# Altium schematic symbol library MCU_ST_STM32G0.SchLib: 252 symbols (part 4 of 5)
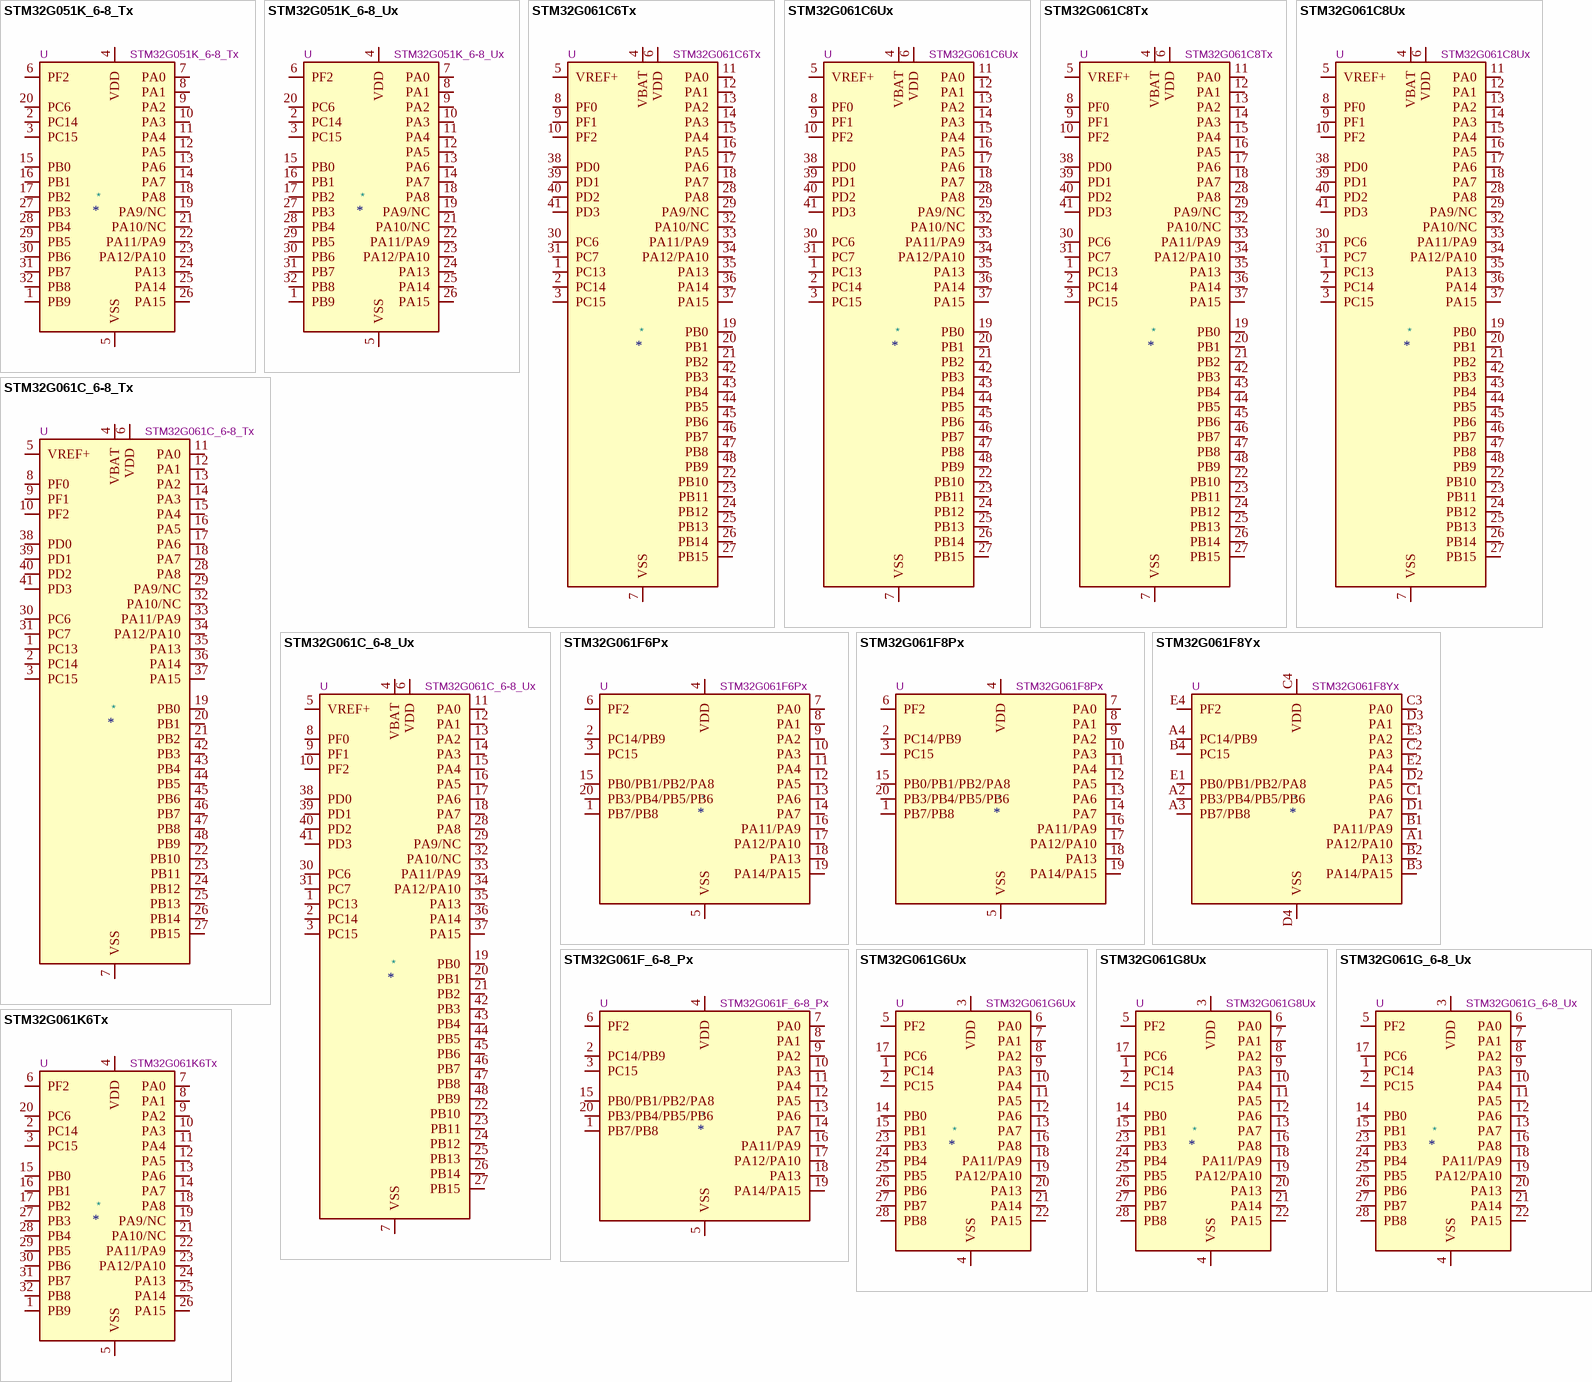
[diagram p22: symbols STM32G051K_6-8_Tx to STM32G061K6Tx]

## STM32G051K_6-8_Ux
designator *  value STM32G051K_6-8_Ux  Reference: U
ki_keywords: Arm Cortex-M0+ STM32G0 STM32G0x1; ki_description: STMicroelectronics Arm Cortex-M0+ MCU, 32-64KB flash, 18KB RAM, 64 MHz, 1.7-3.6V, 30 GPIO, UFQFPN32; ki_fp_filters: QFN*1EP*5x5mm*P0.5mm*; Footprint: Package_DFN_QFN:QFN-32-1EP_5x5mm_P0.5mm_EP3.45x3.45mm; Datasheet: https://www.st.com/resource/en/datasheet/stm32g051k6.pdf
pins: 1 PB9, 2 PC14, 3 PC15, 4 VDD, 5 VSS, 6 PF2, 7 PA0, 8 PA1, 9 PA2, 10 PA3, 11 PA4, 12 PA5, 13 PA6, 14 PA7, 15 PB0, 16 PB1, 17 PB2, 18 PA8, 19 PA9/NC, 20 PC6, 21 PA10/NC, 22 PA11/PA9, 23 PA12/PA10, 24 PA13, 25 PA14, 26 PA15, 27 PB3, 28 PB4, 29 PB5, 30 PB6, 31 PB7, 32 PB8, 33 VSS hidden

## STM32G061C6Tx
designator *  value STM32G061C6Tx  Reference: U
ki_keywords: Arm Cortex-M0+ STM32G0 STM32G0x1; ki_description: STMicroelectronics Arm Cortex-M0+ MCU, 32KB flash, 18KB RAM, 64 MHz, 1.7-3.6V, 44 GPIO, LQFP48; ki_fp_filters: LQFP*7x7mm*P0.5mm*; Footprint: Package_QFP:LQFP-48_7x7mm_P0.5mm; Datasheet: https://www.st.com/resource/en/datasheet/stm32g061c6.pdf
pins: 1 PC13, 2 PC14, 3 PC15, 4 VBAT, 5 VREF+, 6 VDD, 7 VSS, 8 PF0, 9 PF1, 10 PF2, 11 PA0, 12 PA1, 13 PA2, 14 PA3, 15 PA4, 16 PA5, 17 PA6, 18 PA7, 19 PB0, 20 PB1, 21 PB2, 22 PB10, 23 PB11, 24 PB12, 25 PB13, 26 PB14, 27 PB15, 28 PA8, 29 PA9/NC, 30 PC6, 31 PC7, 32 PA10/NC, 33 PA11/PA9, 34 PA12/PA10, 35 PA13, 36 PA14, 37 PA15, 38 PD0, 39 PD1, 40 PD2, 41 PD3, 42 PB3, 43 PB4, 44 PB5, 45 PB6, 46 PB7, 47 PB8, 48 PB9

## STM32G061C6Ux
designator *  value STM32G061C6Ux  Reference: U
ki_keywords: Arm Cortex-M0+ STM32G0 STM32G0x1; ki_description: STMicroelectronics Arm Cortex-M0+ MCU, 32KB flash, 18KB RAM, 64 MHz, 1.7-3.6V, 44 GPIO, UFQFPN48; ki_fp_filters: QFN*1EP*7x7mm*P0.5mm*; Footprint: Package_DFN_QFN:QFN-48-1EP_7x7mm_P0.5mm_EP5.6x5.6mm; Datasheet: https://www.st.com/resource/en/datasheet/stm32g061c6.pdf
pins: 1 PC13, 2 PC14, 3 PC15, 4 VBAT, 5 VREF+, 6 VDD, 7 VSS, 8 PF0, 9 PF1, 10 PF2, 11 PA0, 12 PA1, 13 PA2, 14 PA3, 15 PA4, 16 PA5, 17 PA6, 18 PA7, 19 PB0, 20 PB1, 21 PB2, 22 PB10, 23 PB11, 24 PB12, 25 PB13, 26 PB14, 27 PB15, 28 PA8, 29 PA9/NC, 30 PC6, 31 PC7, 32 PA10/NC, 33 PA11/PA9, 34 PA12/PA10, 35 PA13, 36 PA14, 37 PA15, 38 PD0, 39 PD1, 40 PD2, 41 PD3, 42 PB3, 43 PB4, 44 PB5, 45 PB6, 46 PB7, 47 PB8, 48 PB9, 49 VSS hidden

## STM32G061C8Tx
designator *  value STM32G061C8Tx  Reference: U
ki_keywords: Arm Cortex-M0+ STM32G0 STM32G0x1; ki_description: STMicroelectronics Arm Cortex-M0+ MCU, 64KB flash, 18KB RAM, 64 MHz, 1.7-3.6V, 44 GPIO, LQFP48; ki_fp_filters: LQFP*7x7mm*P0.5mm*; Footprint: Package_QFP:LQFP-48_7x7mm_P0.5mm; Datasheet: https://www.st.com/resource/en/datasheet/stm32g061c8.pdf
pins: 1 PC13, 2 PC14, 3 PC15, 4 VBAT, 5 VREF+, 6 VDD, 7 VSS, 8 PF0, 9 PF1, 10 PF2, 11 PA0, 12 PA1, 13 PA2, 14 PA3, 15 PA4, 16 PA5, 17 PA6, 18 PA7, 19 PB0, 20 PB1, 21 PB2, 22 PB10, 23 PB11, 24 PB12, 25 PB13, 26 PB14, 27 PB15, 28 PA8, 29 PA9/NC, 30 PC6, 31 PC7, 32 PA10/NC, 33 PA11/PA9, 34 PA12/PA10, 35 PA13, 36 PA14, 37 PA15, 38 PD0, 39 PD1, 40 PD2, 41 PD3, 42 PB3, 43 PB4, 44 PB5, 45 PB6, 46 PB7, 47 PB8, 48 PB9

## STM32G061C8Ux
designator *  value STM32G061C8Ux  Reference: U
ki_keywords: Arm Cortex-M0+ STM32G0 STM32G0x1; ki_description: STMicroelectronics Arm Cortex-M0+ MCU, 64KB flash, 18KB RAM, 64 MHz, 1.7-3.6V, 44 GPIO, UFQFPN48; ki_fp_filters: QFN*1EP*7x7mm*P0.5mm*; Footprint: Package_DFN_QFN:QFN-48-1EP_7x7mm_P0.5mm_EP5.6x5.6mm; Datasheet: https://www.st.com/resource/en/datasheet/stm32g061c8.pdf
pins: 1 PC13, 2 PC14, 3 PC15, 4 VBAT, 5 VREF+, 6 VDD, 7 VSS, 8 PF0, 9 PF1, 10 PF2, 11 PA0, 12 PA1, 13 PA2, 14 PA3, 15 PA4, 16 PA5, 17 PA6, 18 PA7, 19 PB0, 20 PB1, 21 PB2, 22 PB10, 23 PB11, 24 PB12, 25 PB13, 26 PB14, 27 PB15, 28 PA8, 29 PA9/NC, 30 PC6, 31 PC7, 32 PA10/NC, 33 PA11/PA9, 34 PA12/PA10, 35 PA13, 36 PA14, 37 PA15, 38 PD0, 39 PD1, 40 PD2, 41 PD3, 42 PB3, 43 PB4, 44 PB5, 45 PB6, 46 PB7, 47 PB8, 48 PB9, 49 VSS hidden

## STM32G061C_6-8_Tx
designator *  value STM32G061C_6-8_Tx  Reference: U
ki_keywords: Arm Cortex-M0+ STM32G0 STM32G0x1; ki_description: STMicroelectronics Arm Cortex-M0+ MCU, 32-64KB flash, 18KB RAM, 64 MHz, 1.7-3.6V, 44 GPIO, LQFP48; ki_fp_filters: LQFP*7x7mm*P0.5mm*; Footprint: Package_QFP:LQFP-48_7x7mm_P0.5mm; Datasheet: https://www.st.com/resource/en/datasheet/stm32g061c6.pdf
pins: 1 PC13, 2 PC14, 3 PC15, 4 VBAT, 5 VREF+, 6 VDD, 7 VSS, 8 PF0, 9 PF1, 10 PF2, 11 PA0, 12 PA1, 13 PA2, 14 PA3, 15 PA4, 16 PA5, 17 PA6, 18 PA7, 19 PB0, 20 PB1, 21 PB2, 22 PB10, 23 PB11, 24 PB12, 25 PB13, 26 PB14, 27 PB15, 28 PA8, 29 PA9/NC, 30 PC6, 31 PC7, 32 PA10/NC, 33 PA11/PA9, 34 PA12/PA10, 35 PA13, 36 PA14, 37 PA15, 38 PD0, 39 PD1, 40 PD2, 41 PD3, 42 PB3, 43 PB4, 44 PB5, 45 PB6, 46 PB7, 47 PB8, 48 PB9

## STM32G061C_6-8_Ux
designator *  value STM32G061C_6-8_Ux  Reference: U
ki_keywords: Arm Cortex-M0+ STM32G0 STM32G0x1; ki_description: STMicroelectronics Arm Cortex-M0+ MCU, 32-64KB flash, 18KB RAM, 64 MHz, 1.7-3.6V, 44 GPIO, UFQFPN48; ki_fp_filters: QFN*1EP*7x7mm*P0.5mm*; Footprint: Package_DFN_QFN:QFN-48-1EP_7x7mm_P0.5mm_EP5.6x5.6mm; Datasheet: https://www.st.com/resource/en/datasheet/stm32g061c6.pdf
pins: 1 PC13, 2 PC14, 3 PC15, 4 VBAT, 5 VREF+, 6 VDD, 7 VSS, 8 PF0, 9 PF1, 10 PF2, 11 PA0, 12 PA1, 13 PA2, 14 PA3, 15 PA4, 16 PA5, 17 PA6, 18 PA7, 19 PB0, 20 PB1, 21 PB2, 22 PB10, 23 PB11, 24 PB12, 25 PB13, 26 PB14, 27 PB15, 28 PA8, 29 PA9/NC, 30 PC6, 31 PC7, 32 PA10/NC, 33 PA11/PA9, 34 PA12/PA10, 35 PA13, 36 PA14, 37 PA15, 38 PD0, 39 PD1, 40 PD2, 41 PD3, 42 PB3, 43 PB4, 44 PB5, 45 PB6, 46 PB7, 47 PB8, 48 PB9, 49 VSS hidden

## STM32G061F6Px
designator *  value STM32G061F6Px  Reference: U
ki_keywords: Arm Cortex-M0+ STM32G0 STM32G0x1; ki_description: STMicroelectronics Arm Cortex-M0+ MCU, 32KB flash, 18KB RAM, 64 MHz, 1.7-3.6V, 18 GPIO, TSSOP20; ki_fp_filters: TSSOP*4.4x6.5mm*P0.65mm*; Footprint: Package_SO:TSSOP-20_4.4x6.5mm_P0.65mm; Datasheet: https://www.st.com/resource/en/datasheet/stm32g061f6.pdf
pins: 1 PB7/PB8, 2 PC14/PB9, 3 PC15, 4 VDD, 5 VSS, 6 PF2, 7 PA0, 8 PA1, 9 PA2, 10 PA3, 11 PA4, 12 PA5, 13 PA6, 14 PA7, 15 PB0/PB1/PB2/PA8, 16 PA11/PA9, 17 PA12/PA10, 18 PA13, 19 PA14/PA15, 20 PB3/PB4/PB5/PB6

## STM32G061F8Px
designator *  value STM32G061F8Px  Reference: U
ki_keywords: Arm Cortex-M0+ STM32G0 STM32G0x1; ki_description: STMicroelectronics Arm Cortex-M0+ MCU, 64KB flash, 18KB RAM, 64 MHz, 1.7-3.6V, 18 GPIO, TSSOP20; ki_fp_filters: TSSOP*4.4x6.5mm*P0.65mm*; Footprint: Package_SO:TSSOP-20_4.4x6.5mm_P0.65mm; Datasheet: https://www.st.com/resource/en/datasheet/stm32g061f8.pdf
pins: 1 PB7/PB8, 2 PC14/PB9, 3 PC15, 4 VDD, 5 VSS, 6 PF2, 7 PA0, 8 PA1, 9 PA2, 10 PA3, 11 PA4, 12 PA5, 13 PA6, 14 PA7, 15 PB0/PB1/PB2/PA8, 16 PA11/PA9, 17 PA12/PA10, 18 PA13, 19 PA14/PA15, 20 PB3/PB4/PB5/PB6

## STM32G061F8Yx
designator *  value STM32G061F8Yx  Reference: U
ki_keywords: Arm Cortex-M0+ STM32G0 STM32G0x1; ki_description: STMicroelectronics Arm Cortex-M0+ MCU, 64KB flash, 18KB RAM, 64 MHz, 1.7-3.6V, 18 GPIO, WLCSP20; Footprint: Package_CSP:ST_WLCSP-20_1.94x2.40mm_Layout4x5_P0.4mm; Datasheet: https://www.st.com/resource/en/datasheet/stm32g061f8.pdf; ki_fp_filters: *
pins: A1 PA12/PA10, A2 PB3/PB4/PB5/PB6, A3 PB7/PB8, A4 PC14/PB9, B1 PA11/PA9, B2 PA13, B3 PA14/PA15, B4 PC15, C1 PA6, C2 PA3, C3 PA0, C4 VDD, D1 PA7, D2 PA5, D3 PA1, D4 VSS, E1 PB0/PB1/PB2/PA8, E2 PA4, E3 PA2, E4 PF2

## STM32G061F_6-8_Px
designator *  value STM32G061F_6-8_Px  Reference: U
ki_keywords: Arm Cortex-M0+ STM32G0 STM32G0x1; ki_description: STMicroelectronics Arm Cortex-M0+ MCU, 32-64KB flash, 18KB RAM, 64 MHz, 1.7-3.6V, 18 GPIO, TSSOP20; ki_fp_filters: TSSOP*4.4x6.5mm*P0.65mm*; Footprint: Package_SO:TSSOP-20_4.4x6.5mm_P0.65mm; Datasheet: https://www.st.com/resource/en/datasheet/stm32g061f6.pdf
pins: 1 PB7/PB8, 2 PC14/PB9, 3 PC15, 4 VDD, 5 VSS, 6 PF2, 7 PA0, 8 PA1, 9 PA2, 10 PA3, 11 PA4, 12 PA5, 13 PA6, 14 PA7, 15 PB0/PB1/PB2/PA8, 16 PA11/PA9, 17 PA12/PA10, 18 PA13, 19 PA14/PA15, 20 PB3/PB4/PB5/PB6

## STM32G061G6Ux
designator *  value STM32G061G6Ux  Reference: U
ki_keywords: Arm Cortex-M0+ STM32G0 STM32G0x1; ki_description: STMicroelectronics Arm Cortex-M0+ MCU, 32KB flash, 18KB RAM, 64 MHz, 1.7-3.6V, 26 GPIO, UFQFPN28; ki_fp_filters: QFN*4x4mm*P0.5mm*; Footprint: Package_DFN_QFN:QFN-28_4x4mm_P0.5mm; Datasheet: https://www.st.com/resource/en/datasheet/stm32g061g6.pdf
pins: 1 PC14, 2 PC15, 3 VDD, 4 VSS, 5 PF2, 6 PA0, 7 PA1, 8 PA2, 9 PA3, 10 PA4, 11 PA5, 12 PA6, 13 PA7, 14 PB0, 15 PB1, 16 PA8, 17 PC6, 18 PA11/PA9, 19 PA12/PA10, 20 PA13, 21 PA14, 22 PA15, 23 PB3, 24 PB4, 25 PB5, 26 PB6, 27 PB7, 28 PB8

## STM32G061G8Ux
designator *  value STM32G061G8Ux  Reference: U
ki_keywords: Arm Cortex-M0+ STM32G0 STM32G0x1; ki_description: STMicroelectronics Arm Cortex-M0+ MCU, 64KB flash, 18KB RAM, 64 MHz, 1.7-3.6V, 26 GPIO, UFQFPN28; ki_fp_filters: QFN*4x4mm*P0.5mm*; Footprint: Package_DFN_QFN:QFN-28_4x4mm_P0.5mm; Datasheet: https://www.st.com/resource/en/datasheet/stm32g061g8.pdf
pins: 1 PC14, 2 PC15, 3 VDD, 4 VSS, 5 PF2, 6 PA0, 7 PA1, 8 PA2, 9 PA3, 10 PA4, 11 PA5, 12 PA6, 13 PA7, 14 PB0, 15 PB1, 16 PA8, 17 PC6, 18 PA11/PA9, 19 PA12/PA10, 20 PA13, 21 PA14, 22 PA15, 23 PB3, 24 PB4, 25 PB5, 26 PB6, 27 PB7, 28 PB8

## STM32G061G_6-8_Ux
designator *  value STM32G061G_6-8_Ux  Reference: U
ki_keywords: Arm Cortex-M0+ STM32G0 STM32G0x1; ki_description: STMicroelectronics Arm Cortex-M0+ MCU, 32-64KB flash, 18KB RAM, 64 MHz, 1.7-3.6V, 26 GPIO, UFQFPN28; ki_fp_filters: QFN*4x4mm*P0.5mm*; Footprint: Package_DFN_QFN:QFN-28_4x4mm_P0.5mm; Datasheet: https://www.st.com/resource/en/datasheet/stm32g061g6.pdf
pins: 1 PC14, 2 PC15, 3 VDD, 4 VSS, 5 PF2, 6 PA0, 7 PA1, 8 PA2, 9 PA3, 10 PA4, 11 PA5, 12 PA6, 13 PA7, 14 PB0, 15 PB1, 16 PA8, 17 PC6, 18 PA11/PA9, 19 PA12/PA10, 20 PA13, 21 PA14, 22 PA15, 23 PB3, 24 PB4, 25 PB5, 26 PB6, 27 PB7, 28 PB8

## STM32G061K6Tx
designator *  value STM32G061K6Tx  Reference: U
ki_keywords: Arm Cortex-M0+ STM32G0 STM32G0x1; ki_description: STMicroelectronics Arm Cortex-M0+ MCU, 32KB flash, 18KB RAM, 64 MHz, 1.7-3.6V, 30 GPIO, LQFP32; ki_fp_filters: LQFP*7x7mm*P0.8mm*; Footprint: Package_QFP:LQFP-32_7x7mm_P0.8mm; Datasheet: https://www.st.com/resource/en/datasheet/stm32g061k6.pdf
pins: 1 PB9, 2 PC14, 3 PC15, 4 VDD, 5 VSS, 6 PF2, 7 PA0, 8 PA1, 9 PA2, 10 PA3, 11 PA4, 12 PA5, 13 PA6, 14 PA7, 15 PB0, 16 PB1, 17 PB2, 18 PA8, 19 PA9/NC, 20 PC6, 21 PA10/NC, 22 PA11/PA9, 23 PA12/PA10, 24 PA13, 25 PA14, 26 PA15, 27 PB3, 28 PB4, 29 PB5, 30 PB6, 31 PB7, 32 PB8

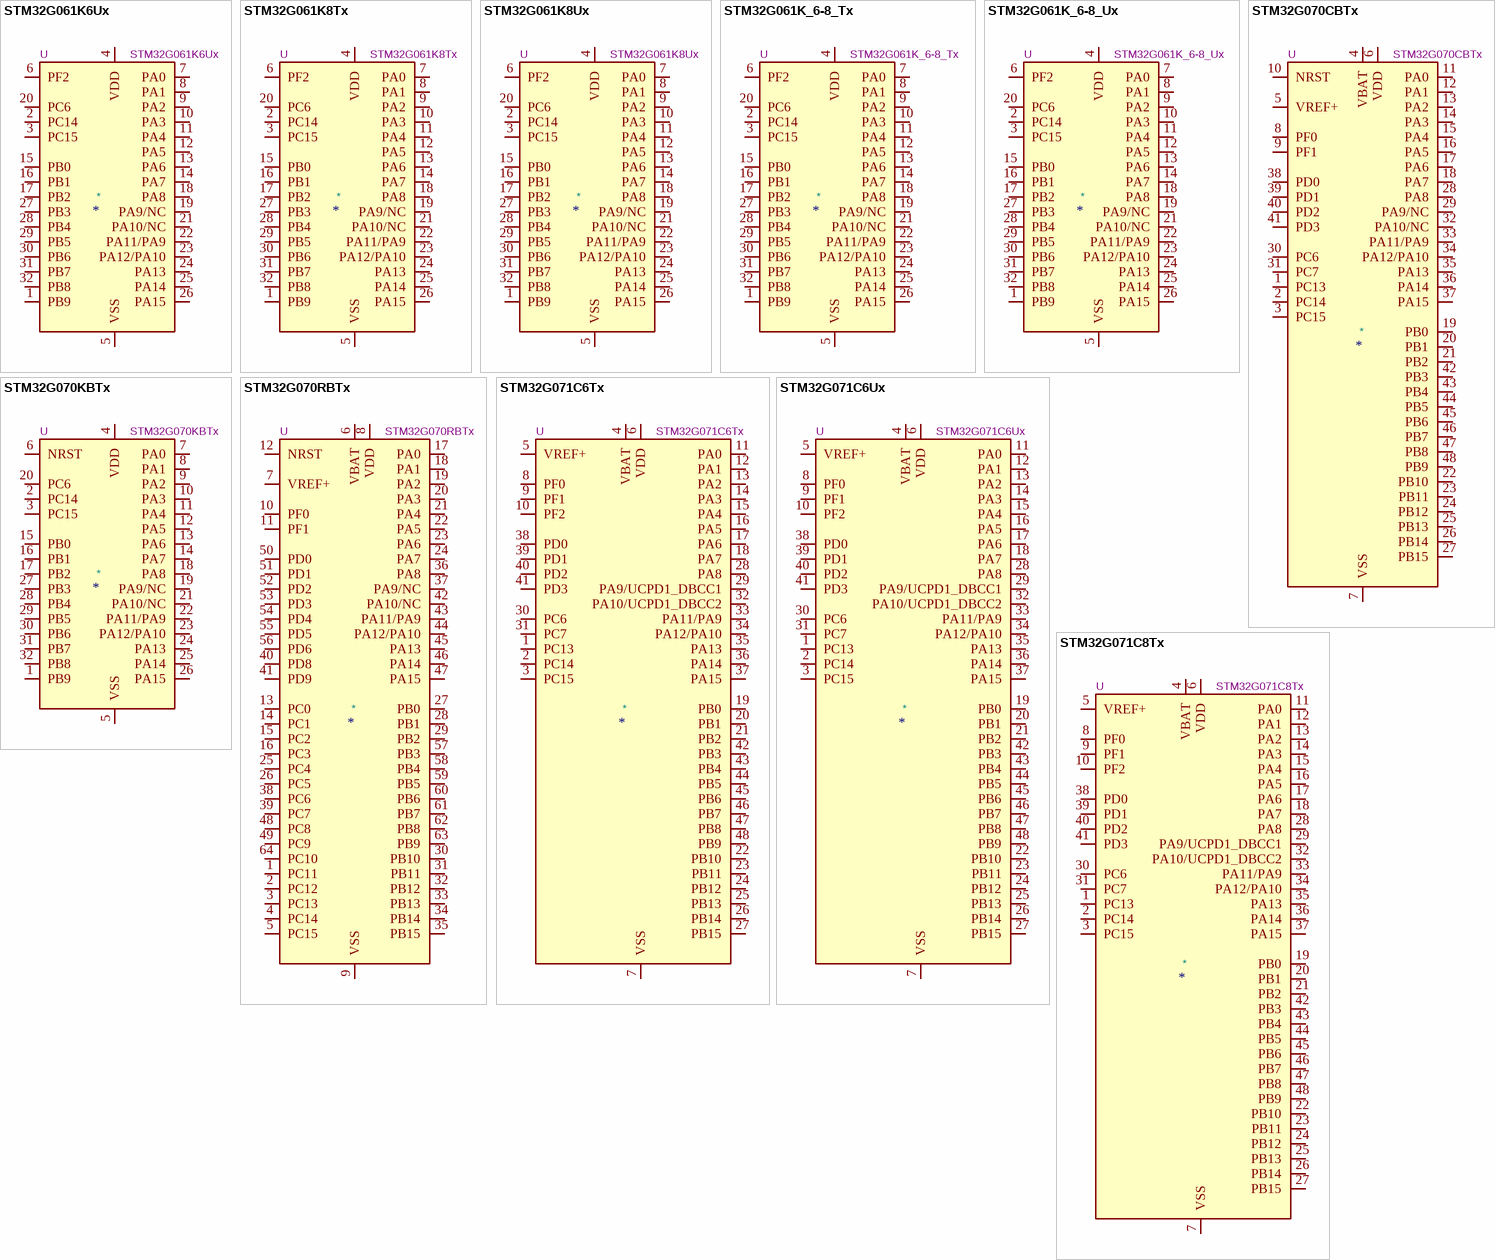
[diagram p16: symbols STM32G061K6Ux to STM32G071C8Tx]

## STM32G061K6Ux
designator *  value STM32G061K6Ux  Reference: U
ki_keywords: Arm Cortex-M0+ STM32G0 STM32G0x1; ki_description: STMicroelectronics Arm Cortex-M0+ MCU, 32KB flash, 18KB RAM, 64 MHz, 1.7-3.6V, 30 GPIO, UFQFPN32; ki_fp_filters: QFN*1EP*5x5mm*P0.5mm*; Footprint: Package_DFN_QFN:QFN-32-1EP_5x5mm_P0.5mm_EP3.45x3.45mm; Datasheet: https://www.st.com/resource/en/datasheet/stm32g061k6.pdf
pins: 1 PB9, 2 PC14, 3 PC15, 4 VDD, 5 VSS, 6 PF2, 7 PA0, 8 PA1, 9 PA2, 10 PA3, 11 PA4, 12 PA5, 13 PA6, 14 PA7, 15 PB0, 16 PB1, 17 PB2, 18 PA8, 19 PA9/NC, 20 PC6, 21 PA10/NC, 22 PA11/PA9, 23 PA12/PA10, 24 PA13, 25 PA14, 26 PA15, 27 PB3, 28 PB4, 29 PB5, 30 PB6, 31 PB7, 32 PB8, 33 VSS hidden

## STM32G061K8Tx
designator *  value STM32G061K8Tx  Reference: U
ki_keywords: Arm Cortex-M0+ STM32G0 STM32G0x1; ki_description: STMicroelectronics Arm Cortex-M0+ MCU, 64KB flash, 18KB RAM, 64 MHz, 1.7-3.6V, 30 GPIO, LQFP32; ki_fp_filters: LQFP*7x7mm*P0.8mm*; Footprint: Package_QFP:LQFP-32_7x7mm_P0.8mm; Datasheet: https://www.st.com/resource/en/datasheet/stm32g061k8.pdf
pins: 1 PB9, 2 PC14, 3 PC15, 4 VDD, 5 VSS, 6 PF2, 7 PA0, 8 PA1, 9 PA2, 10 PA3, 11 PA4, 12 PA5, 13 PA6, 14 PA7, 15 PB0, 16 PB1, 17 PB2, 18 PA8, 19 PA9/NC, 20 PC6, 21 PA10/NC, 22 PA11/PA9, 23 PA12/PA10, 24 PA13, 25 PA14, 26 PA15, 27 PB3, 28 PB4, 29 PB5, 30 PB6, 31 PB7, 32 PB8

## STM32G061K8Ux
designator *  value STM32G061K8Ux  Reference: U
ki_keywords: Arm Cortex-M0+ STM32G0 STM32G0x1; ki_description: STMicroelectronics Arm Cortex-M0+ MCU, 64KB flash, 18KB RAM, 64 MHz, 1.7-3.6V, 30 GPIO, UFQFPN32; ki_fp_filters: QFN*1EP*5x5mm*P0.5mm*; Footprint: Package_DFN_QFN:QFN-32-1EP_5x5mm_P0.5mm_EP3.45x3.45mm; Datasheet: https://www.st.com/resource/en/datasheet/stm32g061k8.pdf
pins: 1 PB9, 2 PC14, 3 PC15, 4 VDD, 5 VSS, 6 PF2, 7 PA0, 8 PA1, 9 PA2, 10 PA3, 11 PA4, 12 PA5, 13 PA6, 14 PA7, 15 PB0, 16 PB1, 17 PB2, 18 PA8, 19 PA9/NC, 20 PC6, 21 PA10/NC, 22 PA11/PA9, 23 PA12/PA10, 24 PA13, 25 PA14, 26 PA15, 27 PB3, 28 PB4, 29 PB5, 30 PB6, 31 PB7, 32 PB8, 33 VSS hidden

## STM32G061K_6-8_Tx
designator *  value STM32G061K_6-8_Tx  Reference: U
ki_keywords: Arm Cortex-M0+ STM32G0 STM32G0x1; ki_description: STMicroelectronics Arm Cortex-M0+ MCU, 32-64KB flash, 18KB RAM, 64 MHz, 1.7-3.6V, 30 GPIO, LQFP32; ki_fp_filters: LQFP*7x7mm*P0.8mm*; Footprint: Package_QFP:LQFP-32_7x7mm_P0.8mm; Datasheet: https://www.st.com/resource/en/datasheet/stm32g061k6.pdf
pins: 1 PB9, 2 PC14, 3 PC15, 4 VDD, 5 VSS, 6 PF2, 7 PA0, 8 PA1, 9 PA2, 10 PA3, 11 PA4, 12 PA5, 13 PA6, 14 PA7, 15 PB0, 16 PB1, 17 PB2, 18 PA8, 19 PA9/NC, 20 PC6, 21 PA10/NC, 22 PA11/PA9, 23 PA12/PA10, 24 PA13, 25 PA14, 26 PA15, 27 PB3, 28 PB4, 29 PB5, 30 PB6, 31 PB7, 32 PB8

## STM32G061K_6-8_Ux
designator *  value STM32G061K_6-8_Ux  Reference: U
ki_keywords: Arm Cortex-M0+ STM32G0 STM32G0x1; ki_description: STMicroelectronics Arm Cortex-M0+ MCU, 32-64KB flash, 18KB RAM, 64 MHz, 1.7-3.6V, 30 GPIO, UFQFPN32; ki_fp_filters: QFN*1EP*5x5mm*P0.5mm*; Footprint: Package_DFN_QFN:QFN-32-1EP_5x5mm_P0.5mm_EP3.45x3.45mm; Datasheet: https://www.st.com/resource/en/datasheet/stm32g061k6.pdf
pins: 1 PB9, 2 PC14, 3 PC15, 4 VDD, 5 VSS, 6 PF2, 7 PA0, 8 PA1, 9 PA2, 10 PA3, 11 PA4, 12 PA5, 13 PA6, 14 PA7, 15 PB0, 16 PB1, 17 PB2, 18 PA8, 19 PA9/NC, 20 PC6, 21 PA10/NC, 22 PA11/PA9, 23 PA12/PA10, 24 PA13, 25 PA14, 26 PA15, 27 PB3, 28 PB4, 29 PB5, 30 PB6, 31 PB7, 32 PB8, 33 VSS hidden

## STM32G070CBTx
designator *  value STM32G070CBTx  Reference: U
ki_keywords: Arm Cortex-M0+ STM32G0 STM32G0x0 Value line; ki_description: STMicroelectronics Arm Cortex-M0+ MCU, 128KB flash, 36KB RAM, 64 MHz, 2.0-3.6V, 43 GPIO, LQFP48; ki_fp_filters: LQFP*7x7mm*P0.5mm*; Footprint: Package_QFP:LQFP-48_7x7mm_P0.5mm; Datasheet: https://www.st.com/resource/en/datasheet/stm32g070cb.pdf
pins: 1 PC13, 2 PC14, 3 PC15, 4 VBAT, 5 VREF+, 6 VDD, 7 VSS, 8 PF0, 9 PF1, 10 NRST, 11 PA0, 12 PA1, 13 PA2, 14 PA3, 15 PA4, 16 PA5, 17 PA6, 18 PA7, 19 PB0, 20 PB1, 21 PB2, 22 PB10, 23 PB11, 24 PB12, 25 PB13, 26 PB14, 27 PB15, 28 PA8, 29 PA9/NC, 30 PC6, 31 PC7, 32 PA10/NC, 33 PA11/PA9, 34 PA12/PA10, 35 PA13, 36 PA14, 37 PA15, 38 PD0, 39 PD1, 40 PD2, 41 PD3, 42 PB3, 43 PB4, 44 PB5, 45 PB6, 46 PB7, 47 PB8, 48 PB9

## STM32G070KBTx
designator *  value STM32G070KBTx  Reference: U
ki_keywords: Arm Cortex-M0+ STM32G0 STM32G0x0 Value line; ki_description: STMicroelectronics Arm Cortex-M0+ MCU, 128KB flash, 36KB RAM, 64 MHz, 2.0-3.6V, 29 GPIO, LQFP32; ki_fp_filters: LQFP*7x7mm*P0.8mm*; Footprint: Package_QFP:LQFP-32_7x7mm_P0.8mm; Datasheet: https://www.st.com/resource/en/datasheet/stm32g070kb.pdf
pins: 1 PB9, 2 PC14, 3 PC15, 4 VDD, 5 VSS, 6 NRST, 7 PA0, 8 PA1, 9 PA2, 10 PA3, 11 PA4, 12 PA5, 13 PA6, 14 PA7, 15 PB0, 16 PB1, 17 PB2, 18 PA8, 19 PA9/NC, 20 PC6, 21 PA10/NC, 22 PA11/PA9, 23 PA12/PA10, 24 PA13, 25 PA14, 26 PA15, 27 PB3, 28 PB4, 29 PB5, 30 PB6, 31 PB7, 32 PB8

## STM32G070RBTx
designator *  value STM32G070RBTx  Reference: U
ki_keywords: Arm Cortex-M0+ STM32G0 STM32G0x0 Value line; ki_description: STMicroelectronics Arm Cortex-M0+ MCU, 128KB flash, 36KB RAM, 64 MHz, 2.0-3.6V, 59 GPIO, LQFP64; ki_fp_filters: LQFP*10x10mm*P0.5mm*; Footprint: Package_QFP:LQFP-64_10x10mm_P0.5mm; Datasheet: https://www.st.com/resource/en/datasheet/stm32g070rb.pdf
pins: 1 PC11, 2 PC12, 3 PC13, 4 PC14, 5 PC15, 6 VBAT, 7 VREF+, 8 VDD, 9 VSS, 10 PF0, 11 PF1, 12 NRST, 13 PC0, 14 PC1, 15 PC2, 16 PC3, 17 PA0, 18 PA1, 19 PA2, 20 PA3, 21 PA4, 22 PA5, 23 PA6, 24 PA7, 25 PC4, 26 PC5, 27 PB0, 28 PB1, 29 PB2, 30 PB10, 31 PB11, 32 PB12, 33 PB13, 34 PB14, 35 PB15, 36 PA8, 37 PA9/NC, 38 PC6, 39 PC7, 40 PD8, 41 PD9, 42 PA10/NC, 43 PA11/PA9, 44 PA12/PA10, 45 PA13, 46 PA14, 47 PA15, 48 PC8, 49 PC9, 50 PD0, 51 PD1, 52 PD2, 53 PD3, 54 PD4, 55 PD5, 56 PD6, 57 PB3, 58 PB4, 59 PB5, 60 PB6, 61 PB7, 62 PB8, 63 PB9, 64 PC10

## STM32G071C6Tx
designator *  value STM32G071C6Tx  Reference: U
ki_keywords: Arm Cortex-M0+ STM32G0 STM32G0x1; ki_description: STMicroelectronics Arm Cortex-M0+ MCU, 32KB flash, 36KB RAM, 64 MHz, 1.7-3.6V, 44 GPIO, LQFP48; ki_fp_filters: LQFP*7x7mm*P0.5mm*; Footprint: Package_QFP:LQFP-48_7x7mm_P0.5mm; Datasheet: https://www.st.com/resource/en/datasheet/stm32g071c6.pdf
pins: 1 PC13, 2 PC14, 3 PC15, 4 VBAT, 5 VREF+, 6 VDD, 7 VSS, 8 PF0, 9 PF1, 10 PF2, 11 PA0, 12 PA1, 13 PA2, 14 PA3, 15 PA4, 16 PA5, 17 PA6, 18 PA7, 19 PB0, 20 PB1, 21 PB2, 22 PB10, 23 PB11, 24 PB12, 25 PB13, 26 PB14, 27 PB15, 28 PA8, 29 PA9/UCPD1_DBCC1, 30 PC6, 31 PC7, 32 PA10/UCPD1_DBCC2, 33 PA11/PA9, 34 PA12/PA10, 35 PA13, 36 PA14, 37 PA15, 38 PD0, 39 PD1, 40 PD2, 41 PD3, 42 PB3, 43 PB4, 44 PB5, 45 PB6, 46 PB7, 47 PB8, 48 PB9

## STM32G071C6Ux
designator *  value STM32G071C6Ux  Reference: U
ki_keywords: Arm Cortex-M0+ STM32G0 STM32G0x1; ki_description: STMicroelectronics Arm Cortex-M0+ MCU, 32KB flash, 36KB RAM, 64 MHz, 1.7-3.6V, 44 GPIO, UFQFPN48; ki_fp_filters: QFN*1EP*7x7mm*P0.5mm*; Footprint: Package_DFN_QFN:QFN-48-1EP_7x7mm_P0.5mm_EP5.6x5.6mm; Datasheet: https://www.st.com/resource/en/datasheet/stm32g071c6.pdf
pins: 1 PC13, 2 PC14, 3 PC15, 4 VBAT, 5 VREF+, 6 VDD, 7 VSS, 8 PF0, 9 PF1, 10 PF2, 11 PA0, 12 PA1, 13 PA2, 14 PA3, 15 PA4, 16 PA5, 17 PA6, 18 PA7, 19 PB0, 20 PB1, 21 PB2, 22 PB10, 23 PB11, 24 PB12, 25 PB13, 26 PB14, 27 PB15, 28 PA8, 29 PA9/UCPD1_DBCC1, 30 PC6, 31 PC7, 32 PA10/UCPD1_DBCC2, 33 PA11/PA9, 34 PA12/PA10, 35 PA13, 36 PA14, 37 PA15, 38 PD0, 39 PD1, 40 PD2, 41 PD3, 42 PB3, 43 PB4, 44 PB5, 45 PB6, 46 PB7, 47 PB8, 48 PB9, 49 VSS hidden

## STM32G071C8Tx
designator *  value STM32G071C8Tx  Reference: U
ki_keywords: Arm Cortex-M0+ STM32G0 STM32G0x1; ki_description: STMicroelectronics Arm Cortex-M0+ MCU, 64KB flash, 36KB RAM, 64 MHz, 1.7-3.6V, 44 GPIO, LQFP48; ki_fp_filters: LQFP*7x7mm*P0.5mm*; Footprint: Package_QFP:LQFP-48_7x7mm_P0.5mm; Datasheet: https://www.st.com/resource/en/datasheet/stm32g071c8.pdf
pins: 1 PC13, 2 PC14, 3 PC15, 4 VBAT, 5 VREF+, 6 VDD, 7 VSS, 8 PF0, 9 PF1, 10 PF2, 11 PA0, 12 PA1, 13 PA2, 14 PA3, 15 PA4, 16 PA5, 17 PA6, 18 PA7, 19 PB0, 20 PB1, 21 PB2, 22 PB10, 23 PB11, 24 PB12, 25 PB13, 26 PB14, 27 PB15, 28 PA8, 29 PA9/UCPD1_DBCC1, 30 PC6, 31 PC7, 32 PA10/UCPD1_DBCC2, 33 PA11/PA9, 34 PA12/PA10, 35 PA13, 36 PA14, 37 PA15, 38 PD0, 39 PD1, 40 PD2, 41 PD3, 42 PB3, 43 PB4, 44 PB5, 45 PB6, 46 PB7, 47 PB8, 48 PB9

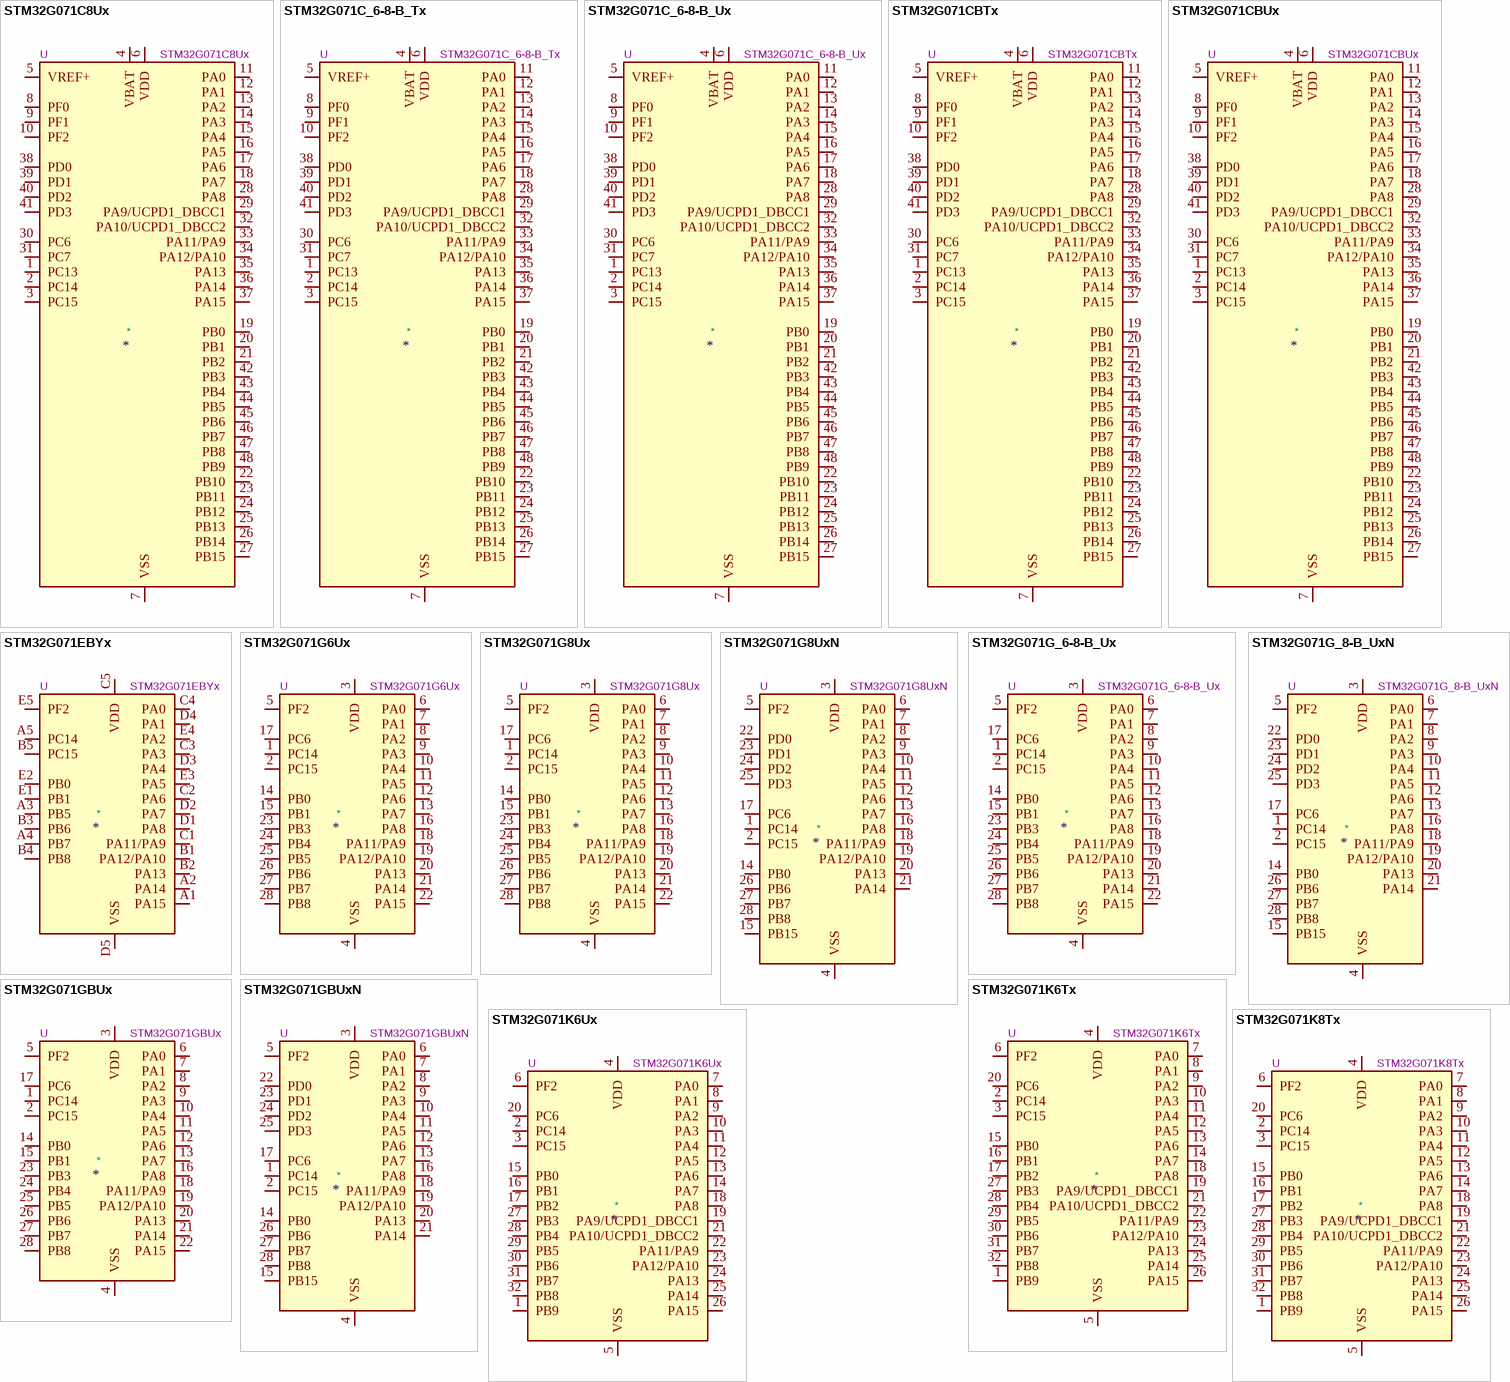
[diagram p17: symbols STM32G071C8Ux to STM32G071K8Tx]

## STM32G071C8Ux
designator *  value STM32G071C8Ux  Reference: U
ki_keywords: Arm Cortex-M0+ STM32G0 STM32G0x1; ki_description: STMicroelectronics Arm Cortex-M0+ MCU, 64KB flash, 36KB RAM, 64 MHz, 1.7-3.6V, 44 GPIO, UFQFPN48; ki_fp_filters: QFN*1EP*7x7mm*P0.5mm*; Footprint: Package_DFN_QFN:QFN-48-1EP_7x7mm_P0.5mm_EP5.6x5.6mm; Datasheet: https://www.st.com/resource/en/datasheet/stm32g071c8.pdf
pins: 1 PC13, 2 PC14, 3 PC15, 4 VBAT, 5 VREF+, 6 VDD, 7 VSS, 8 PF0, 9 PF1, 10 PF2, 11 PA0, 12 PA1, 13 PA2, 14 PA3, 15 PA4, 16 PA5, 17 PA6, 18 PA7, 19 PB0, 20 PB1, 21 PB2, 22 PB10, 23 PB11, 24 PB12, 25 PB13, 26 PB14, 27 PB15, 28 PA8, 29 PA9/UCPD1_DBCC1, 30 PC6, 31 PC7, 32 PA10/UCPD1_DBCC2, 33 PA11/PA9, 34 PA12/PA10, 35 PA13, 36 PA14, 37 PA15, 38 PD0, 39 PD1, 40 PD2, 41 PD3, 42 PB3, 43 PB4, 44 PB5, 45 PB6, 46 PB7, 47 PB8, 48 PB9, 49 VSS hidden

## STM32G071C_6-8-B_Tx
designator *  value STM32G071C_6-8-B_Tx  Reference: U
ki_keywords: Arm Cortex-M0+ STM32G0 STM32G0x1; ki_description: STMicroelectronics Arm Cortex-M0+ MCU, 32-128KB flash, 36KB RAM, 64 MHz, 1.7-3.6V, 44 GPIO, LQFP48; ki_fp_filters: LQFP*7x7mm*P0.5mm*; Footprint: Package_QFP:LQFP-48_7x7mm_P0.5mm; Datasheet: https://www.st.com/resource/en/datasheet/stm32g071c.pdf
pins: 1 PC13, 2 PC14, 3 PC15, 4 VBAT, 5 VREF+, 6 VDD, 7 VSS, 8 PF0, 9 PF1, 10 PF2, 11 PA0, 12 PA1, 13 PA2, 14 PA3, 15 PA4, 16 PA5, 17 PA6, 18 PA7, 19 PB0, 20 PB1, 21 PB2, 22 PB10, 23 PB11, 24 PB12, 25 PB13, 26 PB14, 27 PB15, 28 PA8, 29 PA9/UCPD1_DBCC1, 30 PC6, 31 PC7, 32 PA10/UCPD1_DBCC2, 33 PA11/PA9, 34 PA12/PA10, 35 PA13, 36 PA14, 37 PA15, 38 PD0, 39 PD1, 40 PD2, 41 PD3, 42 PB3, 43 PB4, 44 PB5, 45 PB6, 46 PB7, 47 PB8, 48 PB9

## STM32G071C_6-8-B_Ux
designator *  value STM32G071C_6-8-B_Ux  Reference: U
ki_keywords: Arm Cortex-M0+ STM32G0 STM32G0x1; ki_description: STMicroelectronics Arm Cortex-M0+ MCU, 32-128KB flash, 36KB RAM, 64 MHz, 1.7-3.6V, 44 GPIO, UFQFPN48; ki_fp_filters: QFN*1EP*7x7mm*P0.5mm*; Footprint: Package_DFN_QFN:QFN-48-1EP_7x7mm_P0.5mm_EP5.6x5.6mm; Datasheet: https://www.st.com/resource/en/datasheet/stm32g071c.pdf
pins: 1 PC13, 2 PC14, 3 PC15, 4 VBAT, 5 VREF+, 6 VDD, 7 VSS, 8 PF0, 9 PF1, 10 PF2, 11 PA0, 12 PA1, 13 PA2, 14 PA3, 15 PA4, 16 PA5, 17 PA6, 18 PA7, 19 PB0, 20 PB1, 21 PB2, 22 PB10, 23 PB11, 24 PB12, 25 PB13, 26 PB14, 27 PB15, 28 PA8, 29 PA9/UCPD1_DBCC1, 30 PC6, 31 PC7, 32 PA10/UCPD1_DBCC2, 33 PA11/PA9, 34 PA12/PA10, 35 PA13, 36 PA14, 37 PA15, 38 PD0, 39 PD1, 40 PD2, 41 PD3, 42 PB3, 43 PB4, 44 PB5, 45 PB6, 46 PB7, 47 PB8, 48 PB9, 49 VSS hidden

## STM32G071CBTx
designator *  value STM32G071CBTx  Reference: U
ki_keywords: Arm Cortex-M0+ STM32G0 STM32G0x1; ki_description: STMicroelectronics Arm Cortex-M0+ MCU, 128KB flash, 36KB RAM, 64 MHz, 1.7-3.6V, 44 GPIO, LQFP48; ki_fp_filters: LQFP*7x7mm*P0.5mm*; Footprint: Package_QFP:LQFP-48_7x7mm_P0.5mm; Datasheet: https://www.st.com/resource/en/datasheet/stm32g071cb.pdf
pins: 1 PC13, 2 PC14, 3 PC15, 4 VBAT, 5 VREF+, 6 VDD, 7 VSS, 8 PF0, 9 PF1, 10 PF2, 11 PA0, 12 PA1, 13 PA2, 14 PA3, 15 PA4, 16 PA5, 17 PA6, 18 PA7, 19 PB0, 20 PB1, 21 PB2, 22 PB10, 23 PB11, 24 PB12, 25 PB13, 26 PB14, 27 PB15, 28 PA8, 29 PA9/UCPD1_DBCC1, 30 PC6, 31 PC7, 32 PA10/UCPD1_DBCC2, 33 PA11/PA9, 34 PA12/PA10, 35 PA13, 36 PA14, 37 PA15, 38 PD0, 39 PD1, 40 PD2, 41 PD3, 42 PB3, 43 PB4, 44 PB5, 45 PB6, 46 PB7, 47 PB8, 48 PB9

## STM32G071CBUx
designator *  value STM32G071CBUx  Reference: U
ki_keywords: Arm Cortex-M0+ STM32G0 STM32G0x1; ki_description: STMicroelectronics Arm Cortex-M0+ MCU, 128KB flash, 36KB RAM, 64 MHz, 1.7-3.6V, 44 GPIO, UFQFPN48; ki_fp_filters: QFN*1EP*7x7mm*P0.5mm*; Footprint: Package_DFN_QFN:QFN-48-1EP_7x7mm_P0.5mm_EP5.6x5.6mm; Datasheet: https://www.st.com/resource/en/datasheet/stm32g071cb.pdf
pins: 1 PC13, 2 PC14, 3 PC15, 4 VBAT, 5 VREF+, 6 VDD, 7 VSS, 8 PF0, 9 PF1, 10 PF2, 11 PA0, 12 PA1, 13 PA2, 14 PA3, 15 PA4, 16 PA5, 17 PA6, 18 PA7, 19 PB0, 20 PB1, 21 PB2, 22 PB10, 23 PB11, 24 PB12, 25 PB13, 26 PB14, 27 PB15, 28 PA8, 29 PA9/UCPD1_DBCC1, 30 PC6, 31 PC7, 32 PA10/UCPD1_DBCC2, 33 PA11/PA9, 34 PA12/PA10, 35 PA13, 36 PA14, 37 PA15, 38 PD0, 39 PD1, 40 PD2, 41 PD3, 42 PB3, 43 PB4, 44 PB5, 45 PB6, 46 PB7, 47 PB8, 48 PB9, 49 VSS hidden

## STM32G071EBYx
designator *  value STM32G071EBYx  Reference: U
ki_keywords: Arm Cortex-M0+ STM32G0 STM32G0x1; ki_description: STMicroelectronics Arm Cortex-M0+ MCU, 128KB flash, 36KB RAM, 64 MHz, 1.7-3.6V, 23 GPIO, WLCSP25; Footprint: Package_CSP:ST_WLCSP-25_2.30x2.48mm_Layout5x5_P0.4mm; Datasheet: https://www.st.com/resource/en/datasheet/stm32g071eb.pdf; ki_fp_filters: *
pins: A1 PA15, A2 PA14, A3 PB5, A4 PB7, A5 PC14, B1 PA12/PA10, B2 PA13, B3 PB6, B4 PB8, B5 PC15, C1 PA11/PA9, C2 PA6, C3 PA3, C4 PA0, C5 VDD, D1 PA8, D2 PA7, D3 PA4, D4 PA1, D5 VSS, E1 PB1, E2 PB0, E3 PA5, E4 PA2, E5 PF2

## STM32G071G6Ux
designator *  value STM32G071G6Ux  Reference: U
ki_keywords: Arm Cortex-M0+ STM32G0 STM32G0x1; ki_description: STMicroelectronics Arm Cortex-M0+ MCU, 32KB flash, 36KB RAM, 64 MHz, 1.7-3.6V, 26 GPIO, UFQFPN28; ki_fp_filters: QFN*4x4mm*P0.5mm*; Footprint: Package_DFN_QFN:QFN-28_4x4mm_P0.5mm; Datasheet: https://www.st.com/resource/en/datasheet/stm32g071g6.pdf
pins: 1 PC14, 2 PC15, 3 VDD, 4 VSS, 5 PF2, 6 PA0, 7 PA1, 8 PA2, 9 PA3, 10 PA4, 11 PA5, 12 PA6, 13 PA7, 14 PB0, 15 PB1, 16 PA8, 17 PC6, 18 PA11/PA9, 19 PA12/PA10, 20 PA13, 21 PA14, 22 PA15, 23 PB3, 24 PB4, 25 PB5, 26 PB6, 27 PB7, 28 PB8

## STM32G071G8Ux
designator *  value STM32G071G8Ux  Reference: U
ki_keywords: Arm Cortex-M0+ STM32G0 STM32G0x1; ki_description: STMicroelectronics Arm Cortex-M0+ MCU, 64KB flash, 36KB RAM, 64 MHz, 1.7-3.6V, 26 GPIO, UFQFPN28; ki_fp_filters: QFN*4x4mm*P0.5mm*; Footprint: Package_DFN_QFN:QFN-28_4x4mm_P0.5mm; Datasheet: https://www.st.com/resource/en/datasheet/stm32g071g8.pdf
pins: 1 PC14, 2 PC15, 3 VDD, 4 VSS, 5 PF2, 6 PA0, 7 PA1, 8 PA2, 9 PA3, 10 PA4, 11 PA5, 12 PA6, 13 PA7, 14 PB0, 15 PB1, 16 PA8, 17 PC6, 18 PA11/PA9, 19 PA12/PA10, 20 PA13, 21 PA14, 22 PA15, 23 PB3, 24 PB4, 25 PB5, 26 PB6, 27 PB7, 28 PB8

## STM32G071G8UxN
designator *  value STM32G071G8UxN  Reference: U
ki_keywords: Arm Cortex-M0+ STM32G0 STM32G0x1; ki_description: STMicroelectronics Arm Cortex-M0+ MCU, 64KB flash, 36KB RAM, 64 MHz, 1.7-3.6V, 26 GPIO, UFQFPN28; ki_fp_filters: QFN*4x4mm*P0.5mm*; Footprint: Package_DFN_QFN:QFN-28_4x4mm_P0.5mm; Datasheet: https://www.st.com/resource/en/datasheet/stm32g071g8.pdf
pins: 1 PC14, 2 PC15, 3 VDD, 4 VSS, 5 PF2, 6 PA0, 7 PA1, 8 PA2, 9 PA3, 10 PA4, 11 PA5, 12 PA6, 13 PA7, 14 PB0, 15 PB15, 16 PA8, 17 PC6, 18 PA11/PA9, 19 PA12/PA10, 20 PA13, 21 PA14, 22 PD0, 23 PD1, 24 PD2, 25 PD3, 26 PB6, 27 PB7, 28 PB8

## STM32G071G_6-8-B_Ux
designator *  value STM32G071G_6-8-B_Ux  Reference: U
ki_keywords: Arm Cortex-M0+ STM32G0 STM32G0x1; ki_description: STMicroelectronics Arm Cortex-M0+ MCU, 32-128KB flash, 36KB RAM, 64 MHz, 1.7-3.6V, 26 GPIO, UFQFPN28; ki_fp_filters: QFN*4x4mm*P0.5mm*; Footprint: Package_DFN_QFN:QFN-28_4x4mm_P0.5mm; Datasheet: https://www.st.com/resource/en/datasheet/stm32g071g.pdf
pins: 1 PC14, 2 PC15, 3 VDD, 4 VSS, 5 PF2, 6 PA0, 7 PA1, 8 PA2, 9 PA3, 10 PA4, 11 PA5, 12 PA6, 13 PA7, 14 PB0, 15 PB1, 16 PA8, 17 PC6, 18 PA11/PA9, 19 PA12/PA10, 20 PA13, 21 PA14, 22 PA15, 23 PB3, 24 PB4, 25 PB5, 26 PB6, 27 PB7, 28 PB8

## STM32G071G_8-B_UxN
designator *  value STM32G071G_8-B_UxN  Reference: U
ki_keywords: Arm Cortex-M0+ STM32G0 STM32G0x1; ki_description: STMicroelectronics Arm Cortex-M0+ MCU, 64-128KB flash, 36KB RAM, 64 MHz, 1.7-3.6V, 26 GPIO, UFQFPN28; ki_fp_filters: QFN*4x4mm*P0.5mm*; Footprint: Package_DFN_QFN:QFN-28_4x4mm_P0.5mm; Datasheet: https://www.st.com/resource/en/datasheet/stm32g071g8.pdf
pins: 1 PC14, 2 PC15, 3 VDD, 4 VSS, 5 PF2, 6 PA0, 7 PA1, 8 PA2, 9 PA3, 10 PA4, 11 PA5, 12 PA6, 13 PA7, 14 PB0, 15 PB15, 16 PA8, 17 PC6, 18 PA11/PA9, 19 PA12/PA10, 20 PA13, 21 PA14, 22 PD0, 23 PD1, 24 PD2, 25 PD3, 26 PB6, 27 PB7, 28 PB8

## STM32G071GBUx
designator *  value STM32G071GBUx  Reference: U
ki_keywords: Arm Cortex-M0+ STM32G0 STM32G0x1; ki_description: STMicroelectronics Arm Cortex-M0+ MCU, 128KB flash, 36KB RAM, 64 MHz, 1.7-3.6V, 26 GPIO, UFQFPN28; ki_fp_filters: QFN*4x4mm*P0.5mm*; Footprint: Package_DFN_QFN:QFN-28_4x4mm_P0.5mm; Datasheet: https://www.st.com/resource/en/datasheet/stm32g071gb.pdf
pins: 1 PC14, 2 PC15, 3 VDD, 4 VSS, 5 PF2, 6 PA0, 7 PA1, 8 PA2, 9 PA3, 10 PA4, 11 PA5, 12 PA6, 13 PA7, 14 PB0, 15 PB1, 16 PA8, 17 PC6, 18 PA11/PA9, 19 PA12/PA10, 20 PA13, 21 PA14, 22 PA15, 23 PB3, 24 PB4, 25 PB5, 26 PB6, 27 PB7, 28 PB8

## STM32G071GBUxN
designator *  value STM32G071GBUxN  Reference: U
ki_keywords: Arm Cortex-M0+ STM32G0 STM32G0x1; ki_description: STMicroelectronics Arm Cortex-M0+ MCU, 128KB flash, 36KB RAM, 64 MHz, 1.7-3.6V, 26 GPIO, UFQFPN28; ki_fp_filters: QFN*4x4mm*P0.5mm*; Footprint: Package_DFN_QFN:QFN-28_4x4mm_P0.5mm; Datasheet: https://www.st.com/resource/en/datasheet/stm32g071gb.pdf
pins: 1 PC14, 2 PC15, 3 VDD, 4 VSS, 5 PF2, 6 PA0, 7 PA1, 8 PA2, 9 PA3, 10 PA4, 11 PA5, 12 PA6, 13 PA7, 14 PB0, 15 PB15, 16 PA8, 17 PC6, 18 PA11/PA9, 19 PA12/PA10, 20 PA13, 21 PA14, 22 PD0, 23 PD1, 24 PD2, 25 PD3, 26 PB6, 27 PB7, 28 PB8

## STM32G071K6Tx
designator *  value STM32G071K6Tx  Reference: U
ki_keywords: Arm Cortex-M0+ STM32G0 STM32G0x1; ki_description: STMicroelectronics Arm Cortex-M0+ MCU, 32KB flash, 36KB RAM, 64 MHz, 1.7-3.6V, 30 GPIO, LQFP32; ki_fp_filters: LQFP*7x7mm*P0.8mm*; Footprint: Package_QFP:LQFP-32_7x7mm_P0.8mm; Datasheet: https://www.st.com/resource/en/datasheet/stm32g071k6.pdf
pins: 1 PB9, 2 PC14, 3 PC15, 4 VDD, 5 VSS, 6 PF2, 7 PA0, 8 PA1, 9 PA2, 10 PA3, 11 PA4, 12 PA5, 13 PA6, 14 PA7, 15 PB0, 16 PB1, 17 PB2, 18 PA8, 19 PA9/UCPD1_DBCC1, 20 PC6, 21 PA10/UCPD1_DBCC2, 22 PA11/PA9, 23 PA12/PA10, 24 PA13, 25 PA14, 26 PA15, 27 PB3, 28 PB4, 29 PB5, 30 PB6, 31 PB7, 32 PB8

## STM32G071K6Ux
designator *  value STM32G071K6Ux  Reference: U
ki_keywords: Arm Cortex-M0+ STM32G0 STM32G0x1; ki_description: STMicroelectronics Arm Cortex-M0+ MCU, 32KB flash, 36KB RAM, 64 MHz, 1.7-3.6V, 30 GPIO, UFQFPN32; ki_fp_filters: QFN*1EP*5x5mm*P0.5mm*; Footprint: Package_DFN_QFN:QFN-32-1EP_5x5mm_P0.5mm_EP3.45x3.45mm; Datasheet: https://www.st.com/resource/en/datasheet/stm32g071k6.pdf
pins: 1 PB9, 2 PC14, 3 PC15, 4 VDD, 5 VSS, 6 PF2, 7 PA0, 8 PA1, 9 PA2, 10 PA3, 11 PA4, 12 PA5, 13 PA6, 14 PA7, 15 PB0, 16 PB1, 17 PB2, 18 PA8, 19 PA9/UCPD1_DBCC1, 20 PC6, 21 PA10/UCPD1_DBCC2, 22 PA11/PA9, 23 PA12/PA10, 24 PA13, 25 PA14, 26 PA15, 27 PB3, 28 PB4, 29 PB5, 30 PB6, 31 PB7, 32 PB8, 33 VSS hidden

## STM32G071K8Tx
designator *  value STM32G071K8Tx  Reference: U
ki_keywords: Arm Cortex-M0+ STM32G0 STM32G0x1; ki_description: STMicroelectronics Arm Cortex-M0+ MCU, 64KB flash, 36KB RAM, 64 MHz, 1.7-3.6V, 30 GPIO, LQFP32; ki_fp_filters: LQFP*7x7mm*P0.8mm*; Footprint: Package_QFP:LQFP-32_7x7mm_P0.8mm; Datasheet: https://www.st.com/resource/en/datasheet/stm32g071k8.pdf
pins: 1 PB9, 2 PC14, 3 PC15, 4 VDD, 5 VSS, 6 PF2, 7 PA0, 8 PA1, 9 PA2, 10 PA3, 11 PA4, 12 PA5, 13 PA6, 14 PA7, 15 PB0, 16 PB1, 17 PB2, 18 PA8, 19 PA9/UCPD1_DBCC1, 20 PC6, 21 PA10/UCPD1_DBCC2, 22 PA11/PA9, 23 PA12/PA10, 24 PA13, 25 PA14, 26 PA15, 27 PB3, 28 PB4, 29 PB5, 30 PB6, 31 PB7, 32 PB8

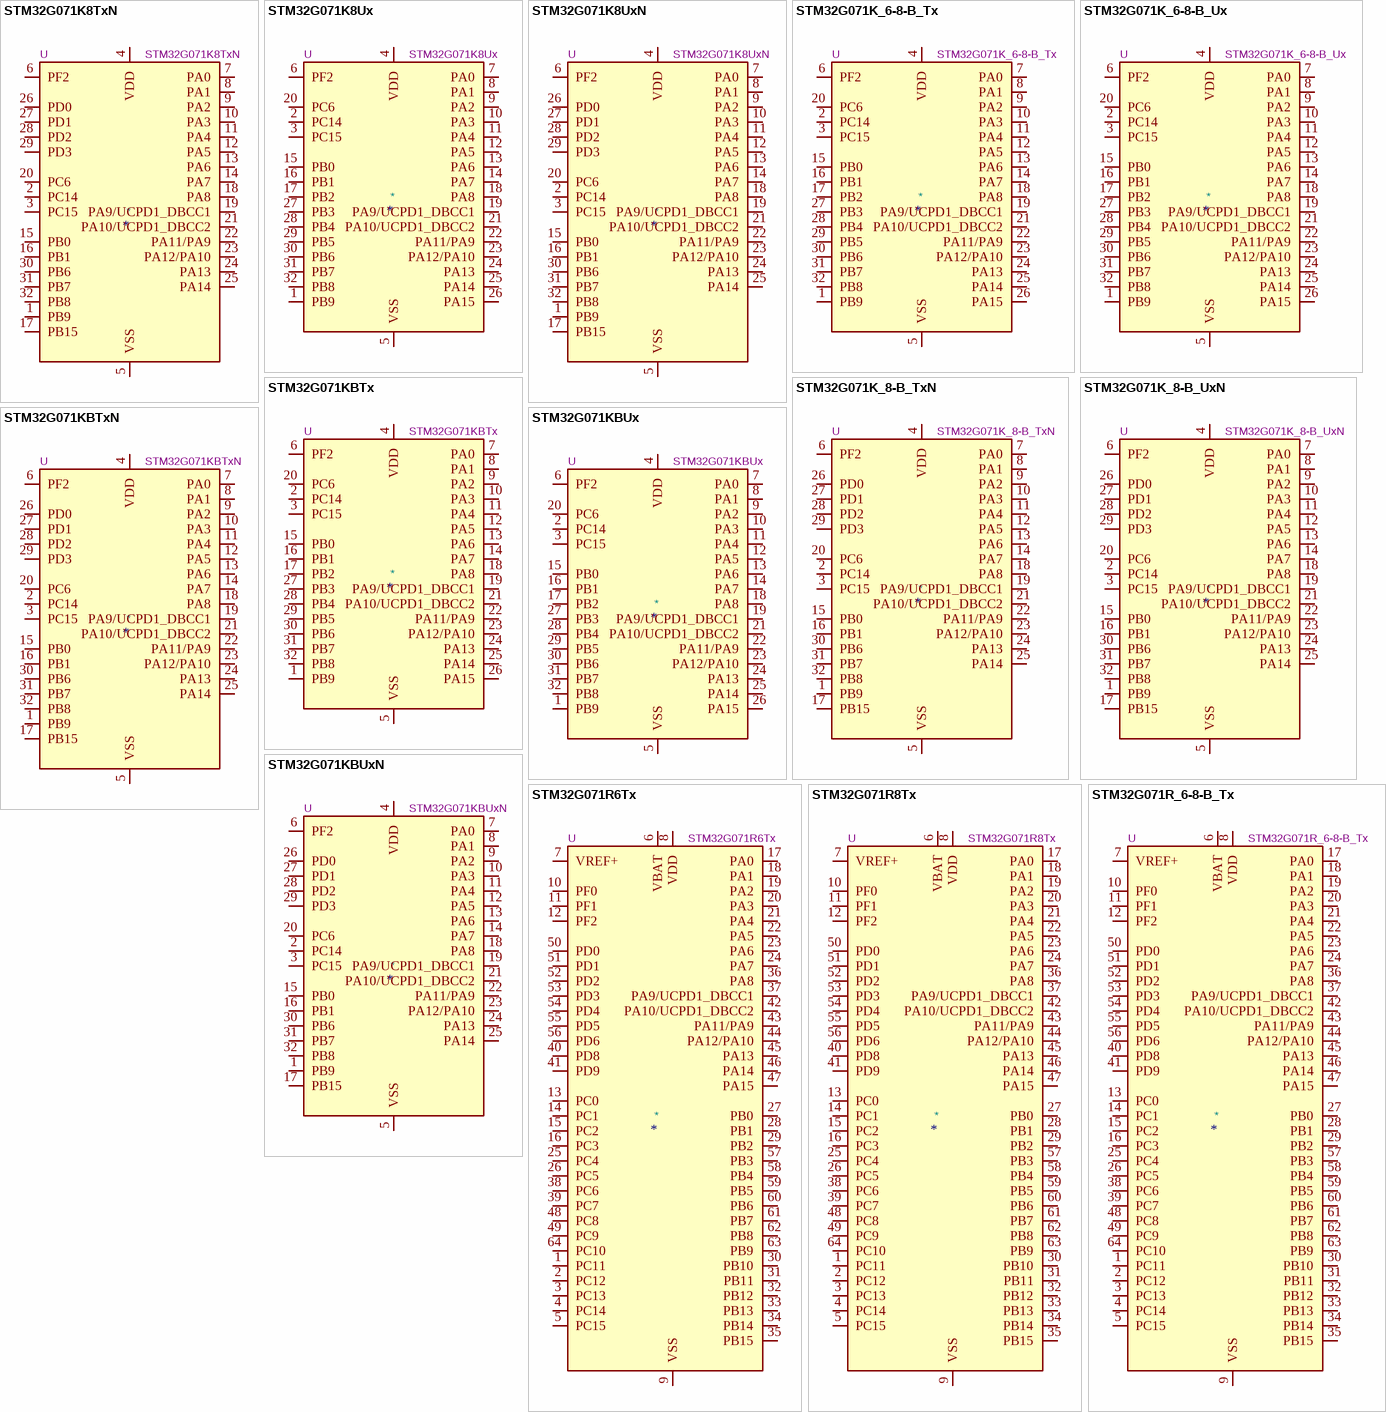
[diagram p18: symbols STM32G071K8TxN to STM32G071R_6-8-B_Tx]

## STM32G071K8TxN
designator *  value STM32G071K8TxN  Reference: U
ki_keywords: Arm Cortex-M0+ STM32G0 STM32G0x1; ki_description: STMicroelectronics Arm Cortex-M0+ MCU, 64KB flash, 36KB RAM, 64 MHz, 1.7-3.6V, 30 GPIO, LQFP32; ki_fp_filters: LQFP*7x7mm*P0.8mm*; Footprint: Package_QFP:LQFP-32_7x7mm_P0.8mm; Datasheet: https://www.st.com/resource/en/datasheet/stm32g071k8.pdf
pins: 1 PB9, 2 PC14, 3 PC15, 4 VDD, 5 VSS, 6 PF2, 7 PA0, 8 PA1, 9 PA2, 10 PA3, 11 PA4, 12 PA5, 13 PA6, 14 PA7, 15 PB0, 16 PB1, 17 PB15, 18 PA8, 19 PA9/UCPD1_DBCC1, 20 PC6, 21 PA10/UCPD1_DBCC2, 22 PA11/PA9, 23 PA12/PA10, 24 PA13, 25 PA14, 26 PD0, 27 PD1, 28 PD2, 29 PD3, 30 PB6, 31 PB7, 32 PB8

## STM32G071K8Ux
designator *  value STM32G071K8Ux  Reference: U
ki_keywords: Arm Cortex-M0+ STM32G0 STM32G0x1; ki_description: STMicroelectronics Arm Cortex-M0+ MCU, 64KB flash, 36KB RAM, 64 MHz, 1.7-3.6V, 30 GPIO, UFQFPN32; ki_fp_filters: QFN*1EP*5x5mm*P0.5mm*; Footprint: Package_DFN_QFN:QFN-32-1EP_5x5mm_P0.5mm_EP3.45x3.45mm; Datasheet: https://www.st.com/resource/en/datasheet/stm32g071k8.pdf
pins: 1 PB9, 2 PC14, 3 PC15, 4 VDD, 5 VSS, 6 PF2, 7 PA0, 8 PA1, 9 PA2, 10 PA3, 11 PA4, 12 PA5, 13 PA6, 14 PA7, 15 PB0, 16 PB1, 17 PB2, 18 PA8, 19 PA9/UCPD1_DBCC1, 20 PC6, 21 PA10/UCPD1_DBCC2, 22 PA11/PA9, 23 PA12/PA10, 24 PA13, 25 PA14, 26 PA15, 27 PB3, 28 PB4, 29 PB5, 30 PB6, 31 PB7, 32 PB8, 33 VSS hidden

## STM32G071K8UxN
designator *  value STM32G071K8UxN  Reference: U
ki_keywords: Arm Cortex-M0+ STM32G0 STM32G0x1; ki_description: STMicroelectronics Arm Cortex-M0+ MCU, 64KB flash, 36KB RAM, 64 MHz, 1.7-3.6V, 30 GPIO, UFQFPN32; ki_fp_filters: QFN*1EP*5x5mm*P0.5mm*; Footprint: Package_DFN_QFN:QFN-32-1EP_5x5mm_P0.5mm_EP3.45x3.45mm; Datasheet: https://www.st.com/resource/en/datasheet/stm32g071k8.pdf
pins: 1 PB9, 2 PC14, 3 PC15, 4 VDD, 5 VSS, 6 PF2, 7 PA0, 8 PA1, 9 PA2, 10 PA3, 11 PA4, 12 PA5, 13 PA6, 14 PA7, 15 PB0, 16 PB1, 17 PB15, 18 PA8, 19 PA9/UCPD1_DBCC1, 20 PC6, 21 PA10/UCPD1_DBCC2, 22 PA11/PA9, 23 PA12/PA10, 24 PA13, 25 PA14, 26 PD0, 27 PD1, 28 PD2, 29 PD3, 30 PB6, 31 PB7, 32 PB8, 33 VSS hidden

## STM32G071K_6-8-B_Tx
designator *  value STM32G071K_6-8-B_Tx  Reference: U
ki_keywords: Arm Cortex-M0+ STM32G0 STM32G0x1; ki_description: STMicroelectronics Arm Cortex-M0+ MCU, 32-128KB flash, 36KB RAM, 64 MHz, 1.7-3.6V, 30 GPIO, LQFP32; ki_fp_filters: LQFP*7x7mm*P0.8mm*; Footprint: Package_QFP:LQFP-32_7x7mm_P0.8mm; Datasheet: https://www.st.com/resource/en/datasheet/stm32g071k.pdf
pins: 1 PB9, 2 PC14, 3 PC15, 4 VDD, 5 VSS, 6 PF2, 7 PA0, 8 PA1, 9 PA2, 10 PA3, 11 PA4, 12 PA5, 13 PA6, 14 PA7, 15 PB0, 16 PB1, 17 PB2, 18 PA8, 19 PA9/UCPD1_DBCC1, 20 PC6, 21 PA10/UCPD1_DBCC2, 22 PA11/PA9, 23 PA12/PA10, 24 PA13, 25 PA14, 26 PA15, 27 PB3, 28 PB4, 29 PB5, 30 PB6, 31 PB7, 32 PB8

## STM32G071K_6-8-B_Ux
designator *  value STM32G071K_6-8-B_Ux  Reference: U
ki_keywords: Arm Cortex-M0+ STM32G0 STM32G0x1; ki_description: STMicroelectronics Arm Cortex-M0+ MCU, 32-128KB flash, 36KB RAM, 64 MHz, 1.7-3.6V, 30 GPIO, UFQFPN32; ki_fp_filters: QFN*1EP*5x5mm*P0.5mm*; Footprint: Package_DFN_QFN:QFN-32-1EP_5x5mm_P0.5mm_EP3.45x3.45mm; Datasheet: https://www.st.com/resource/en/datasheet/stm32g071k.pdf
pins: 1 PB9, 2 PC14, 3 PC15, 4 VDD, 5 VSS, 6 PF2, 7 PA0, 8 PA1, 9 PA2, 10 PA3, 11 PA4, 12 PA5, 13 PA6, 14 PA7, 15 PB0, 16 PB1, 17 PB2, 18 PA8, 19 PA9/UCPD1_DBCC1, 20 PC6, 21 PA10/UCPD1_DBCC2, 22 PA11/PA9, 23 PA12/PA10, 24 PA13, 25 PA14, 26 PA15, 27 PB3, 28 PB4, 29 PB5, 30 PB6, 31 PB7, 32 PB8, 33 VSS hidden

## STM32G071K_8-B_TxN
designator *  value STM32G071K_8-B_TxN  Reference: U
ki_keywords: Arm Cortex-M0+ STM32G0 STM32G0x1; ki_description: STMicroelectronics Arm Cortex-M0+ MCU, 64-128KB flash, 36KB RAM, 64 MHz, 1.7-3.6V, 30 GPIO, LQFP32; ki_fp_filters: LQFP*7x7mm*P0.8mm*; Footprint: Package_QFP:LQFP-32_7x7mm_P0.8mm; Datasheet: https://www.st.com/resource/en/datasheet/stm32g071k8.pdf
pins: 1 PB9, 2 PC14, 3 PC15, 4 VDD, 5 VSS, 6 PF2, 7 PA0, 8 PA1, 9 PA2, 10 PA3, 11 PA4, 12 PA5, 13 PA6, 14 PA7, 15 PB0, 16 PB1, 17 PB15, 18 PA8, 19 PA9/UCPD1_DBCC1, 20 PC6, 21 PA10/UCPD1_DBCC2, 22 PA11/PA9, 23 PA12/PA10, 24 PA13, 25 PA14, 26 PD0, 27 PD1, 28 PD2, 29 PD3, 30 PB6, 31 PB7, 32 PB8

## STM32G071K_8-B_UxN
designator *  value STM32G071K_8-B_UxN  Reference: U
ki_keywords: Arm Cortex-M0+ STM32G0 STM32G0x1; ki_description: STMicroelectronics Arm Cortex-M0+ MCU, 64-128KB flash, 36KB RAM, 64 MHz, 1.7-3.6V, 30 GPIO, UFQFPN32; ki_fp_filters: QFN*1EP*5x5mm*P0.5mm*; Footprint: Package_DFN_QFN:QFN-32-1EP_5x5mm_P0.5mm_EP3.45x3.45mm; Datasheet: https://www.st.com/resource/en/datasheet/stm32g071k8.pdf
pins: 1 PB9, 2 PC14, 3 PC15, 4 VDD, 5 VSS, 6 PF2, 7 PA0, 8 PA1, 9 PA2, 10 PA3, 11 PA4, 12 PA5, 13 PA6, 14 PA7, 15 PB0, 16 PB1, 17 PB15, 18 PA8, 19 PA9/UCPD1_DBCC1, 20 PC6, 21 PA10/UCPD1_DBCC2, 22 PA11/PA9, 23 PA12/PA10, 24 PA13, 25 PA14, 26 PD0, 27 PD1, 28 PD2, 29 PD3, 30 PB6, 31 PB7, 32 PB8, 33 VSS hidden

## STM32G071KBTx
designator *  value STM32G071KBTx  Reference: U
ki_keywords: Arm Cortex-M0+ STM32G0 STM32G0x1; ki_description: STMicroelectronics Arm Cortex-M0+ MCU, 128KB flash, 36KB RAM, 64 MHz, 1.7-3.6V, 30 GPIO, LQFP32; ki_fp_filters: LQFP*7x7mm*P0.8mm*; Footprint: Package_QFP:LQFP-32_7x7mm_P0.8mm; Datasheet: https://www.st.com/resource/en/datasheet/stm32g071kb.pdf
pins: 1 PB9, 2 PC14, 3 PC15, 4 VDD, 5 VSS, 6 PF2, 7 PA0, 8 PA1, 9 PA2, 10 PA3, 11 PA4, 12 PA5, 13 PA6, 14 PA7, 15 PB0, 16 PB1, 17 PB2, 18 PA8, 19 PA9/UCPD1_DBCC1, 20 PC6, 21 PA10/UCPD1_DBCC2, 22 PA11/PA9, 23 PA12/PA10, 24 PA13, 25 PA14, 26 PA15, 27 PB3, 28 PB4, 29 PB5, 30 PB6, 31 PB7, 32 PB8

## STM32G071KBTxN
designator *  value STM32G071KBTxN  Reference: U
ki_keywords: Arm Cortex-M0+ STM32G0 STM32G0x1; ki_description: STMicroelectronics Arm Cortex-M0+ MCU, 128KB flash, 36KB RAM, 64 MHz, 1.7-3.6V, 30 GPIO, LQFP32; ki_fp_filters: LQFP*7x7mm*P0.8mm*; Footprint: Package_QFP:LQFP-32_7x7mm_P0.8mm; Datasheet: https://www.st.com/resource/en/datasheet/stm32g071kb.pdf
pins: 1 PB9, 2 PC14, 3 PC15, 4 VDD, 5 VSS, 6 PF2, 7 PA0, 8 PA1, 9 PA2, 10 PA3, 11 PA4, 12 PA5, 13 PA6, 14 PA7, 15 PB0, 16 PB1, 17 PB15, 18 PA8, 19 PA9/UCPD1_DBCC1, 20 PC6, 21 PA10/UCPD1_DBCC2, 22 PA11/PA9, 23 PA12/PA10, 24 PA13, 25 PA14, 26 PD0, 27 PD1, 28 PD2, 29 PD3, 30 PB6, 31 PB7, 32 PB8

## STM32G071KBUx
designator *  value STM32G071KBUx  Reference: U
ki_keywords: Arm Cortex-M0+ STM32G0 STM32G0x1; ki_description: STMicroelectronics Arm Cortex-M0+ MCU, 128KB flash, 36KB RAM, 64 MHz, 1.7-3.6V, 30 GPIO, UFQFPN32; ki_fp_filters: QFN*1EP*5x5mm*P0.5mm*; Footprint: Package_DFN_QFN:QFN-32-1EP_5x5mm_P0.5mm_EP3.45x3.45mm; Datasheet: https://www.st.com/resource/en/datasheet/stm32g071kb.pdf
pins: 1 PB9, 2 PC14, 3 PC15, 4 VDD, 5 VSS, 6 PF2, 7 PA0, 8 PA1, 9 PA2, 10 PA3, 11 PA4, 12 PA5, 13 PA6, 14 PA7, 15 PB0, 16 PB1, 17 PB2, 18 PA8, 19 PA9/UCPD1_DBCC1, 20 PC6, 21 PA10/UCPD1_DBCC2, 22 PA11/PA9, 23 PA12/PA10, 24 PA13, 25 PA14, 26 PA15, 27 PB3, 28 PB4, 29 PB5, 30 PB6, 31 PB7, 32 PB8, 33 VSS hidden

## STM32G071KBUxN
designator *  value STM32G071KBUxN  Reference: U
ki_keywords: Arm Cortex-M0+ STM32G0 STM32G0x1; ki_description: STMicroelectronics Arm Cortex-M0+ MCU, 128KB flash, 36KB RAM, 64 MHz, 1.7-3.6V, 30 GPIO, UFQFPN32; ki_fp_filters: QFN*1EP*5x5mm*P0.5mm*; Footprint: Package_DFN_QFN:QFN-32-1EP_5x5mm_P0.5mm_EP3.45x3.45mm; Datasheet: https://www.st.com/resource/en/datasheet/stm32g071kb.pdf
pins: 1 PB9, 2 PC14, 3 PC15, 4 VDD, 5 VSS, 6 PF2, 7 PA0, 8 PA1, 9 PA2, 10 PA3, 11 PA4, 12 PA5, 13 PA6, 14 PA7, 15 PB0, 16 PB1, 17 PB15, 18 PA8, 19 PA9/UCPD1_DBCC1, 20 PC6, 21 PA10/UCPD1_DBCC2, 22 PA11/PA9, 23 PA12/PA10, 24 PA13, 25 PA14, 26 PD0, 27 PD1, 28 PD2, 29 PD3, 30 PB6, 31 PB7, 32 PB8, 33 VSS hidden

## STM32G071R6Tx
designator *  value STM32G071R6Tx  Reference: U
ki_keywords: Arm Cortex-M0+ STM32G0 STM32G0x1; ki_description: STMicroelectronics Arm Cortex-M0+ MCU, 32KB flash, 36KB RAM, 64 MHz, 1.7-3.6V, 60 GPIO, LQFP64; ki_fp_filters: LQFP*10x10mm*P0.5mm*; Footprint: Package_QFP:LQFP-64_10x10mm_P0.5mm; Datasheet: https://www.st.com/resource/en/datasheet/stm32g071r6.pdf
pins: 1 PC11, 2 PC12, 3 PC13, 4 PC14, 5 PC15, 6 VBAT, 7 VREF+, 8 VDD, 9 VSS, 10 PF0, 11 PF1, 12 PF2, 13 PC0, 14 PC1, 15 PC2, 16 PC3, 17 PA0, 18 PA1, 19 PA2, 20 PA3, 21 PA4, 22 PA5, 23 PA6, 24 PA7, 25 PC4, 26 PC5, 27 PB0, 28 PB1, 29 PB2, 30 PB10, 31 PB11, 32 PB12, 33 PB13, 34 PB14, 35 PB15, 36 PA8, 37 PA9/UCPD1_DBCC1, 38 PC6, 39 PC7, 40 PD8, 41 PD9, 42 PA10/UCPD1_DBCC2, 43 PA11/PA9, 44 PA12/PA10, 45 PA13, 46 PA14, 47 PA15, 48 PC8, 49 PC9, 50 PD0, 51 PD1, 52 PD2, 53 PD3, 54 PD4, 55 PD5, 56 PD6, 57 PB3, 58 PB4, 59 PB5, 60 PB6, 61 PB7, 62 PB8, 63 PB9, 64 PC10

## STM32G071R8Tx
designator *  value STM32G071R8Tx  Reference: U
ki_keywords: Arm Cortex-M0+ STM32G0 STM32G0x1; ki_description: STMicroelectronics Arm Cortex-M0+ MCU, 64KB flash, 36KB RAM, 64 MHz, 1.7-3.6V, 60 GPIO, LQFP64; ki_fp_filters: LQFP*10x10mm*P0.5mm*; Footprint: Package_QFP:LQFP-64_10x10mm_P0.5mm; Datasheet: https://www.st.com/resource/en/datasheet/stm32g071r8.pdf
pins: 1 PC11, 2 PC12, 3 PC13, 4 PC14, 5 PC15, 6 VBAT, 7 VREF+, 8 VDD, 9 VSS, 10 PF0, 11 PF1, 12 PF2, 13 PC0, 14 PC1, 15 PC2, 16 PC3, 17 PA0, 18 PA1, 19 PA2, 20 PA3, 21 PA4, 22 PA5, 23 PA6, 24 PA7, 25 PC4, 26 PC5, 27 PB0, 28 PB1, 29 PB2, 30 PB10, 31 PB11, 32 PB12, 33 PB13, 34 PB14, 35 PB15, 36 PA8, 37 PA9/UCPD1_DBCC1, 38 PC6, 39 PC7, 40 PD8, 41 PD9, 42 PA10/UCPD1_DBCC2, 43 PA11/PA9, 44 PA12/PA10, 45 PA13, 46 PA14, 47 PA15, 48 PC8, 49 PC9, 50 PD0, 51 PD1, 52 PD2, 53 PD3, 54 PD4, 55 PD5, 56 PD6, 57 PB3, 58 PB4, 59 PB5, 60 PB6, 61 PB7, 62 PB8, 63 PB9, 64 PC10

## STM32G071R_6-8-B_Tx
designator *  value STM32G071R_6-8-B_Tx  Reference: U
ki_keywords: Arm Cortex-M0+ STM32G0 STM32G0x1; ki_description: STMicroelectronics Arm Cortex-M0+ MCU, 32-128KB flash, 36KB RAM, 64 MHz, 1.7-3.6V, 60 GPIO, LQFP64; ki_fp_filters: LQFP*10x10mm*P0.5mm*; Footprint: Package_QFP:LQFP-64_10x10mm_P0.5mm; Datasheet: https://www.st.com/resource/en/datasheet/stm32g071r.pdf
pins: 1 PC11, 2 PC12, 3 PC13, 4 PC14, 5 PC15, 6 VBAT, 7 VREF+, 8 VDD, 9 VSS, 10 PF0, 11 PF1, 12 PF2, 13 PC0, 14 PC1, 15 PC2, 16 PC3, 17 PA0, 18 PA1, 19 PA2, 20 PA3, 21 PA4, 22 PA5, 23 PA6, 24 PA7, 25 PC4, 26 PC5, 27 PB0, 28 PB1, 29 PB2, 30 PB10, 31 PB11, 32 PB12, 33 PB13, 34 PB14, 35 PB15, 36 PA8, 37 PA9/UCPD1_DBCC1, 38 PC6, 39 PC7, 40 PD8, 41 PD9, 42 PA10/UCPD1_DBCC2, 43 PA11/PA9, 44 PA12/PA10, 45 PA13, 46 PA14, 47 PA15, 48 PC8, 49 PC9, 50 PD0, 51 PD1, 52 PD2, 53 PD3, 54 PD4, 55 PD5, 56 PD6, 57 PB3, 58 PB4, 59 PB5, 60 PB6, 61 PB7, 62 PB8, 63 PB9, 64 PC10

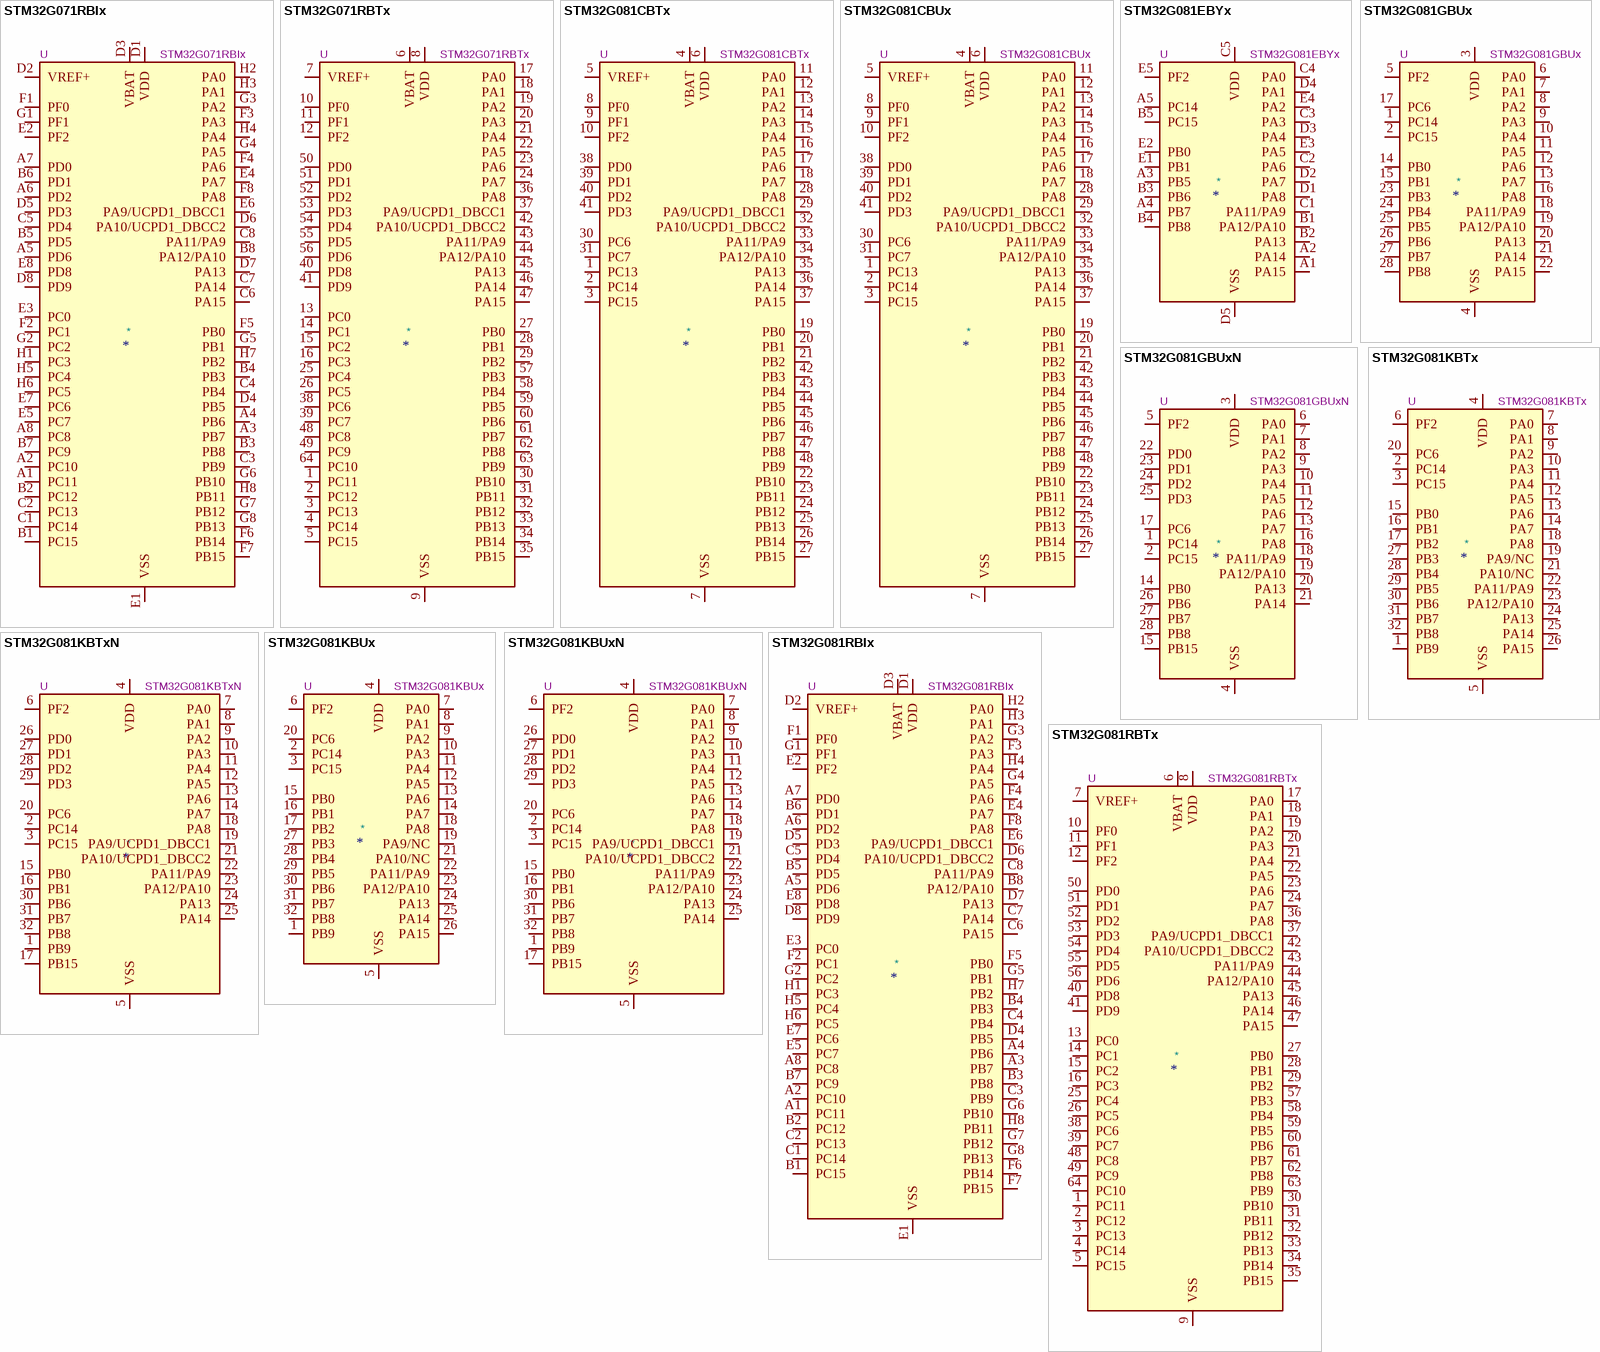
[diagram p19: symbols STM32G071RBIx to STM32G081RBTx]

## STM32G071RBIx
designator *  value STM32G071RBIx  Reference: U
ki_keywords: Arm Cortex-M0+ STM32G0 STM32G0x1; ki_description: STMicroelectronics Arm Cortex-M0+ MCU, 128KB flash, 36KB RAM, 64 MHz, 1.7-3.6V, 60 GPIO, UFBGA64; ki_fp_filters: *UFBGA*5x5mm*Layout8x8*P0.5mm*; Footprint: Package_BGA:UFBGA-64_5x5mm_Layout8x8_P0.5mm; Datasheet: https://www.st.com/resource/en/datasheet/stm32g071rb.pdf
pins: A1 PC11, A2 PC10, A3 PB7, A4 PB6, A5 PD6, A6 PD2, A7 PD0, A8 PC8, B1 PC15, B2 PC12, B3 PB8, B4 PB3, B5 PD5, B6 PD1, B7 PC9, B8 PA12/PA10, C1 PC14, C2 PC13, C3 PB9, C4 PB4, C5 PD4, C6 PA15, C7 PA14, C8 PA11/PA9, D1 VDD, D2 VREF+, D3 VBAT, D4 PB5, D5 PD3, D6 PA10/UCPD1_DBCC2, D7 PA13, D8 PD9, E1 VSS, E2 PF2, E3 PC0, E4 PA7, E5 PC7, E6 PA9/UCPD1_DBCC1, E7 PC6, E8 PD8, F1 PF0, F2 PC1, F3 PA3, F4 PA6, F5 PB0, F6 PB14, F7 PB15, F8 PA8, G1 PF1, G2 PC2, G3 PA2, G4 PA5, G5 PB1, G6 PB10, G7 PB12, G8 PB13, H1 PC3, H2 PA0, H3 PA1, H4 PA4, H5 PC4, H6 PC5, H7 PB2, H8 PB11

## STM32G071RBTx
designator *  value STM32G071RBTx  Reference: U
ki_keywords: Arm Cortex-M0+ STM32G0 STM32G0x1; ki_description: STMicroelectronics Arm Cortex-M0+ MCU, 128KB flash, 36KB RAM, 64 MHz, 1.7-3.6V, 60 GPIO, LQFP64; ki_fp_filters: LQFP*10x10mm*P0.5mm*; Footprint: Package_QFP:LQFP-64_10x10mm_P0.5mm; Datasheet: https://www.st.com/resource/en/datasheet/stm32g071rb.pdf
pins: 1 PC11, 2 PC12, 3 PC13, 4 PC14, 5 PC15, 6 VBAT, 7 VREF+, 8 VDD, 9 VSS, 10 PF0, 11 PF1, 12 PF2, 13 PC0, 14 PC1, 15 PC2, 16 PC3, 17 PA0, 18 PA1, 19 PA2, 20 PA3, 21 PA4, 22 PA5, 23 PA6, 24 PA7, 25 PC4, 26 PC5, 27 PB0, 28 PB1, 29 PB2, 30 PB10, 31 PB11, 32 PB12, 33 PB13, 34 PB14, 35 PB15, 36 PA8, 37 PA9/UCPD1_DBCC1, 38 PC6, 39 PC7, 40 PD8, 41 PD9, 42 PA10/UCPD1_DBCC2, 43 PA11/PA9, 44 PA12/PA10, 45 PA13, 46 PA14, 47 PA15, 48 PC8, 49 PC9, 50 PD0, 51 PD1, 52 PD2, 53 PD3, 54 PD4, 55 PD5, 56 PD6, 57 PB3, 58 PB4, 59 PB5, 60 PB6, 61 PB7, 62 PB8, 63 PB9, 64 PC10

## STM32G081CBTx
designator *  value STM32G081CBTx  Reference: U
ki_keywords: Arm Cortex-M0+ STM32G0 STM32G0x1; ki_description: STMicroelectronics Arm Cortex-M0+ MCU, 128KB flash, 36KB RAM, 64 MHz, 1.7-3.6V, 44 GPIO, LQFP48; ki_fp_filters: LQFP*7x7mm*P0.5mm*; Footprint: Package_QFP:LQFP-48_7x7mm_P0.5mm; Datasheet: https://www.st.com/resource/en/datasheet/stm32g081cb.pdf
pins: 1 PC13, 2 PC14, 3 PC15, 4 VBAT, 5 VREF+, 6 VDD, 7 VSS, 8 PF0, 9 PF1, 10 PF2, 11 PA0, 12 PA1, 13 PA2, 14 PA3, 15 PA4, 16 PA5, 17 PA6, 18 PA7, 19 PB0, 20 PB1, 21 PB2, 22 PB10, 23 PB11, 24 PB12, 25 PB13, 26 PB14, 27 PB15, 28 PA8, 29 PA9/UCPD1_DBCC1, 30 PC6, 31 PC7, 32 PA10/UCPD1_DBCC2, 33 PA11/PA9, 34 PA12/PA10, 35 PA13, 36 PA14, 37 PA15, 38 PD0, 39 PD1, 40 PD2, 41 PD3, 42 PB3, 43 PB4, 44 PB5, 45 PB6, 46 PB7, 47 PB8, 48 PB9

## STM32G081CBUx
designator *  value STM32G081CBUx  Reference: U
ki_keywords: Arm Cortex-M0+ STM32G0 STM32G0x1; ki_description: STMicroelectronics Arm Cortex-M0+ MCU, 128KB flash, 36KB RAM, 64 MHz, 1.7-3.6V, 44 GPIO, UFQFPN48; ki_fp_filters: QFN*1EP*7x7mm*P0.5mm*; Footprint: Package_DFN_QFN:QFN-48-1EP_7x7mm_P0.5mm_EP5.6x5.6mm; Datasheet: https://www.st.com/resource/en/datasheet/stm32g081cb.pdf
pins: 1 PC13, 2 PC14, 3 PC15, 4 VBAT, 5 VREF+, 6 VDD, 7 VSS, 8 PF0, 9 PF1, 10 PF2, 11 PA0, 12 PA1, 13 PA2, 14 PA3, 15 PA4, 16 PA5, 17 PA6, 18 PA7, 19 PB0, 20 PB1, 21 PB2, 22 PB10, 23 PB11, 24 PB12, 25 PB13, 26 PB14, 27 PB15, 28 PA8, 29 PA9/UCPD1_DBCC1, 30 PC6, 31 PC7, 32 PA10/UCPD1_DBCC2, 33 PA11/PA9, 34 PA12/PA10, 35 PA13, 36 PA14, 37 PA15, 38 PD0, 39 PD1, 40 PD2, 41 PD3, 42 PB3, 43 PB4, 44 PB5, 45 PB6, 46 PB7, 47 PB8, 48 PB9, 49 VSS hidden

## STM32G081EBYx
designator *  value STM32G081EBYx  Reference: U
ki_keywords: Arm Cortex-M0+ STM32G0 STM32G0x1; ki_description: STMicroelectronics Arm Cortex-M0+ MCU, 128KB flash, 36KB RAM, 64 MHz, 1.7-3.6V, 23 GPIO, WLCSP25; Footprint: Package_CSP:ST_WLCSP-25_2.30x2.48mm_Layout5x5_P0.4mm; Datasheet: https://www.st.com/resource/en/datasheet/stm32g081eb.pdf; ki_fp_filters: *
pins: A1 PA15, A2 PA14, A3 PB5, A4 PB7, A5 PC14, B1 PA12/PA10, B2 PA13, B3 PB6, B4 PB8, B5 PC15, C1 PA11/PA9, C2 PA6, C3 PA3, C4 PA0, C5 VDD, D1 PA8, D2 PA7, D3 PA4, D4 PA1, D5 VSS, E1 PB1, E2 PB0, E3 PA5, E4 PA2, E5 PF2

## STM32G081GBUx
designator *  value STM32G081GBUx  Reference: U
ki_keywords: Arm Cortex-M0+ STM32G0 STM32G0x1; ki_description: STMicroelectronics Arm Cortex-M0+ MCU, 128KB flash, 36KB RAM, 64 MHz, 1.7-3.6V, 26 GPIO, UFQFPN28; ki_fp_filters: QFN*4x4mm*P0.5mm*; Footprint: Package_DFN_QFN:QFN-28_4x4mm_P0.5mm; Datasheet: https://www.st.com/resource/en/datasheet/stm32g081gb.pdf
pins: 1 PC14, 2 PC15, 3 VDD, 4 VSS, 5 PF2, 6 PA0, 7 PA1, 8 PA2, 9 PA3, 10 PA4, 11 PA5, 12 PA6, 13 PA7, 14 PB0, 15 PB1, 16 PA8, 17 PC6, 18 PA11/PA9, 19 PA12/PA10, 20 PA13, 21 PA14, 22 PA15, 23 PB3, 24 PB4, 25 PB5, 26 PB6, 27 PB7, 28 PB8

## STM32G081GBUxN
designator *  value STM32G081GBUxN  Reference: U
ki_keywords: Arm Cortex-M0+ STM32G0 STM32G0x1; ki_description: STMicroelectronics Arm Cortex-M0+ MCU, 128KB flash, 36KB RAM, 64 MHz, 1.7-3.6V, 26 GPIO, UFQFPN28; ki_fp_filters: QFN*4x4mm*P0.5mm*; Footprint: Package_DFN_QFN:QFN-28_4x4mm_P0.5mm; Datasheet: https://www.st.com/resource/en/datasheet/stm32g081gb.pdf
pins: 1 PC14, 2 PC15, 3 VDD, 4 VSS, 5 PF2, 6 PA0, 7 PA1, 8 PA2, 9 PA3, 10 PA4, 11 PA5, 12 PA6, 13 PA7, 14 PB0, 15 PB15, 16 PA8, 17 PC6, 18 PA11/PA9, 19 PA12/PA10, 20 PA13, 21 PA14, 22 PD0, 23 PD1, 24 PD2, 25 PD3, 26 PB6, 27 PB7, 28 PB8

## STM32G081KBTx
designator *  value STM32G081KBTx  Reference: U
ki_keywords: Arm Cortex-M0+ STM32G0 STM32G0x1; ki_description: STMicroelectronics Arm Cortex-M0+ MCU, 128KB flash, 36KB RAM, 64 MHz, 1.7-3.6V, 30 GPIO, LQFP32; ki_fp_filters: LQFP*7x7mm*P0.8mm*; Footprint: Package_QFP:LQFP-32_7x7mm_P0.8mm; Datasheet: https://www.st.com/resource/en/datasheet/stm32g081kb.pdf
pins: 1 PB9, 2 PC14, 3 PC15, 4 VDD, 5 VSS, 6 PF2, 7 PA0, 8 PA1, 9 PA2, 10 PA3, 11 PA4, 12 PA5, 13 PA6, 14 PA7, 15 PB0, 16 PB1, 17 PB2, 18 PA8, 19 PA9/NC, 20 PC6, 21 PA10/NC, 22 PA11/PA9, 23 PA12/PA10, 24 PA13, 25 PA14, 26 PA15, 27 PB3, 28 PB4, 29 PB5, 30 PB6, 31 PB7, 32 PB8

## STM32G081KBTxN
designator *  value STM32G081KBTxN  Reference: U
ki_keywords: Arm Cortex-M0+ STM32G0 STM32G0x1; ki_description: STMicroelectronics Arm Cortex-M0+ MCU, 128KB flash, 36KB RAM, 64 MHz, 1.7-3.6V, 30 GPIO, LQFP32; ki_fp_filters: LQFP*7x7mm*P0.8mm*; Footprint: Package_QFP:LQFP-32_7x7mm_P0.8mm; Datasheet: https://www.st.com/resource/en/datasheet/stm32g081kb.pdf
pins: 1 PB9, 2 PC14, 3 PC15, 4 VDD, 5 VSS, 6 PF2, 7 PA0, 8 PA1, 9 PA2, 10 PA3, 11 PA4, 12 PA5, 13 PA6, 14 PA7, 15 PB0, 16 PB1, 17 PB15, 18 PA8, 19 PA9/UCPD1_DBCC1, 20 PC6, 21 PA10/UCPD1_DBCC2, 22 PA11/PA9, 23 PA12/PA10, 24 PA13, 25 PA14, 26 PD0, 27 PD1, 28 PD2, 29 PD3, 30 PB6, 31 PB7, 32 PB8

## STM32G081KBUx
designator *  value STM32G081KBUx  Reference: U
ki_keywords: Arm Cortex-M0+ STM32G0 STM32G0x1; ki_description: STMicroelectronics Arm Cortex-M0+ MCU, 128KB flash, 36KB RAM, 64 MHz, 1.7-3.6V, 30 GPIO, UFQFPN32; ki_fp_filters: QFN*1EP*5x5mm*P0.5mm*; Footprint: Package_DFN_QFN:QFN-32-1EP_5x5mm_P0.5mm_EP3.45x3.45mm; Datasheet: https://www.st.com/resource/en/datasheet/stm32g081kb.pdf
pins: 1 PB9, 2 PC14, 3 PC15, 4 VDD, 5 VSS, 6 PF2, 7 PA0, 8 PA1, 9 PA2, 10 PA3, 11 PA4, 12 PA5, 13 PA6, 14 PA7, 15 PB0, 16 PB1, 17 PB2, 18 PA8, 19 PA9/NC, 20 PC6, 21 PA10/NC, 22 PA11/PA9, 23 PA12/PA10, 24 PA13, 25 PA14, 26 PA15, 27 PB3, 28 PB4, 29 PB5, 30 PB6, 31 PB7, 32 PB8, 33 VSS hidden

## STM32G081KBUxN
designator *  value STM32G081KBUxN  Reference: U
ki_keywords: Arm Cortex-M0+ STM32G0 STM32G0x1; ki_description: STMicroelectronics Arm Cortex-M0+ MCU, 128KB flash, 36KB RAM, 64 MHz, 1.7-3.6V, 30 GPIO, UFQFPN32; ki_fp_filters: QFN*1EP*5x5mm*P0.5mm*; Footprint: Package_DFN_QFN:QFN-32-1EP_5x5mm_P0.5mm_EP3.45x3.45mm; Datasheet: https://www.st.com/resource/en/datasheet/stm32g081kb.pdf
pins: 1 PB9, 2 PC14, 3 PC15, 4 VDD, 5 VSS, 6 PF2, 7 PA0, 8 PA1, 9 PA2, 10 PA3, 11 PA4, 12 PA5, 13 PA6, 14 PA7, 15 PB0, 16 PB1, 17 PB15, 18 PA8, 19 PA9/UCPD1_DBCC1, 20 PC6, 21 PA10/UCPD1_DBCC2, 22 PA11/PA9, 23 PA12/PA10, 24 PA13, 25 PA14, 26 PD0, 27 PD1, 28 PD2, 29 PD3, 30 PB6, 31 PB7, 32 PB8, 33 VSS hidden

## STM32G081RBIx
designator *  value STM32G081RBIx  Reference: U
ki_keywords: Arm Cortex-M0+ STM32G0 STM32G0x1; ki_description: STMicroelectronics Arm Cortex-M0+ MCU, 128KB flash, 36KB RAM, 64 MHz, 1.7-3.6V, 60 GPIO, UFBGA64; ki_fp_filters: *UFBGA*5x5mm*Layout8x8*P0.5mm*; Footprint: Package_BGA:UFBGA-64_5x5mm_Layout8x8_P0.5mm; Datasheet: https://www.st.com/resource/en/datasheet/stm32g081rb.pdf
pins: A1 PC11, A2 PC10, A3 PB7, A4 PB6, A5 PD6, A6 PD2, A7 PD0, A8 PC8, B1 PC15, B2 PC12, B3 PB8, B4 PB3, B5 PD5, B6 PD1, B7 PC9, B8 PA12/PA10, C1 PC14, C2 PC13, C3 PB9, C4 PB4, C5 PD4, C6 PA15, C7 PA14, C8 PA11/PA9, D1 VDD, D2 VREF+, D3 VBAT, D4 PB5, D5 PD3, D6 PA10/UCPD1_DBCC2, D7 PA13, D8 PD9, E1 VSS, E2 PF2, E3 PC0, E4 PA7, E5 PC7, E6 PA9/UCPD1_DBCC1, E7 PC6, E8 PD8, F1 PF0, F2 PC1, F3 PA3, F4 PA6, F5 PB0, F6 PB14, F7 PB15, F8 PA8, G1 PF1, G2 PC2, G3 PA2, G4 PA5, G5 PB1, G6 PB10, G7 PB12, G8 PB13, H1 PC3, H2 PA0, H3 PA1, H4 PA4, H5 PC4, H6 PC5, H7 PB2, H8 PB11